# Altium integrated library Renesas Microcontroller H8.IntLib: 489 symbols (part 20 of 25)
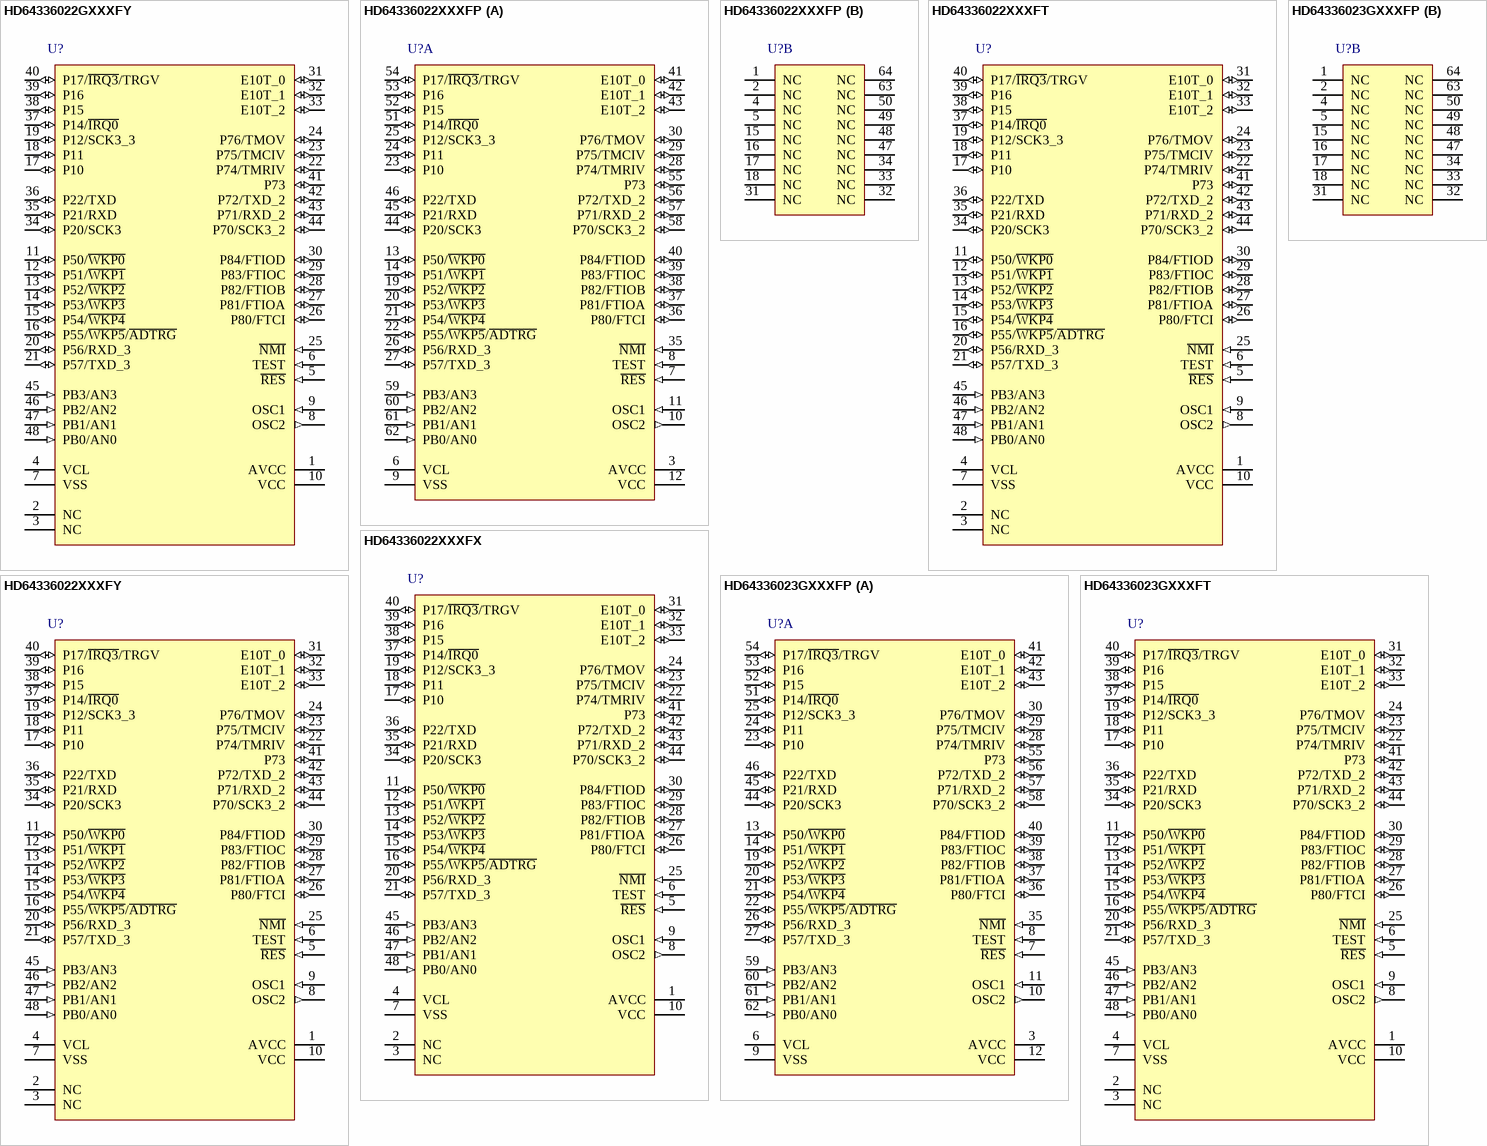
[diagram p107: symbols HD64336022GXXXFY to HD64336023GXXXFT]

## HD64336023GXXXFP
designator U?
H8 Family 32/16-bit CISC, H8/300H Tiny, 24K ROM, 1K RAM, 1 to 10MHz, 2.7 to 5.5V, 64-Pin QFP; Published: 28-Aug-2009; DatasheetVersion: Rev.4.00, Sep-2005; PackageVersion: Sep-2005; PackageReference: PLQP0064KC-A; Publisher: Altium Limited; PackageDescription: 64-Pin Plastic Low Profile QFP, 10 x 10 x 1.45 mm Body, 0.5 mm Pitch; Code_JEITA: P-LQFP64-10x10-0.50; Code_IPC: SQFP50P1200X1200-64; ComponentLink1Description: Manufacturer Link; ComponentLink1URL: http://sg.renesas.com/fmwk.jsp?cnt=h8_family_landing.jsp&fp=/products/mpumcu/h8_family/; ComponentLink2Description: Datasheet; ComponentLink2URL: http://documentation.renesas.com/eng/products/mpumcu/rej09b0025_h836024.pdf; ComponentLink3Description: Packaging Specification; ComponentLink3URL: http://sg.renesas.com/media/products/common_info/package/pdf/ic/code/plqp0064kc_a.pdf
footprint PLQP0064KC-A_N (Shrink QFP, 64-Leads, Body 10x10mm, Pitch 0.5mm, IPC Medium Density)
footprint PLQP0064KC-A_L (Shrink QFP, 64-Leads, Body 10x10mm, Pitch 0.5mm, IPC High Density)
footprint PLQP0064KC-A_M (Shrink QFP, 64-Leads, Body 10x10mm, Pitch 0.5mm, IPC Low Density)
part A pins: 3 AVCC (power), 6 VCL (power), 7 ~{RES} (in), 8 TEST (in), 9 VSS (power), 10 OSC2 (out), 11 OSC1 (in), 12 VCC (power), 13 P50/~{WKP0} (io), 14 P51/~{WKP1} (io), 19 P52/~{WKP2} (io), 20 P53/~{WKP3} (io), 21 P54/~{WKP4} (io), 22 P55/~{WKP5}/~{ADTRG} (io), 23 P10 (io), 24 P11 (io), 25 P12/SCK3_3 (io), 26 P56/RXD_3 (io), 27 P57/TXD_3 (io), 28 P74/TMRIV (io), 29 P75/TMCIV (io), 30 P76/TMOV (io), 35 ~{NMI} (in), 36 P80/FTCI (io), 37 P81/FTIOA (io), 38 P82/FTIOB (io), 39 P83/FTIOC (io), 40 P84/FTIOD (io), 41 E10T_0 (io), 42 E10T_1 (io), 43 E10T_2 (io), 44 P20/SCK3 (io), 45 P21/RXD (io), 46 P22/TXD (io), 51 P14/~{IRQ0} (io), 52 P15 (io), 53 P16 (io), 54 P17/~{IRQ3}/TRGV (io), 55 P73 (io), 56 P72/TXD_2 (io), 57 P71/RXD_2 (io), 58 P70/SCK3_2 (io), 59 PB3/AN3 (in), 60 PB2/AN2 (in), 61 PB1/AN1 (in), 62 PB0/AN0 (in)
part B pins: 1 NC, 2 NC, 4 NC, 5 NC, 15 NC, 16 NC, 17 NC, 18 NC, 31 NC, 32 NC, 33 NC, 34 NC, 47 NC, 48 NC, 49 NC, 50 NC, 63 NC, 64 NC

## HD64336023GXXXFT
designator U?
H8 Family 32/16-bit CISC, H8/300H Tiny, 24K ROM, 1K RAM, 1 to 10MHz, 2.7 to 5.5V, 48-Pin QFN; Published: 28-Aug-2009; DatasheetVersion: Rev.4.00, Sep-2005; PackageVersion: Sep-2005; PackageReference: PVQN0048KA-A; Publisher: Altium Limited; PackageDescription: 48-Pin Plastic Very Thin QFN, 7 x 7 X 0.9 mm Body, 0.5 mm Pitch; Code_JEITA: P-VQFN48-7x7-0.50; ComponentLink1Description: Manufacturer Link; ComponentLink1URL: http://sg.renesas.com/fmwk.jsp?cnt=h8_family_landing.jsp&fp=/products/mpumcu/h8_family/; ComponentLink2Description: Datasheet; ComponentLink2URL: http://documentation.renesas.com/eng/products/mpumcu/rej09b0025_h836024.pdf; ComponentLink3Description: Packaging Specification; ComponentLink3URL: http://sg.renesas.com/media/products/common_info/package/pdf/ic/code/pvqn0048ka_a.pdf
footprint PVQN0048KA-A_N (QFN, 48-Leads, Body 7x7mm, Pitch 0.5mm, IPC Medium Density)
footprint PVQN0048KA-A_L (QFN, 48-Leads, Body 7x7mm, Pitch 0.5mm, IPC High Density)
footprint PVQN0048KA-A_M (QFN, 48-Leads, Body 7x7mm, Pitch 0.5mm, IPC Low Density)
pins: 1 AVCC (power), 2 NC, 3 NC, 4 VCL (power), 5 ~{RES} (in), 6 TEST (in), 7 VSS (power), 8 OSC2 (out), 9 OSC1 (in), 10 VCC (power), 11 P50/~{WKP0} (io), 12 P51/~{WKP1} (io), 13 P52/~{WKP2} (io), 14 P53/~{WKP3} (io), 15 P54/~{WKP4} (io), 16 P55/~{WKP5}/~{ADTRG} (io), 17 P10 (io), 18 P11 (io), 19 P12/SCK3_3 (io), 20 P56/RXD_3 (io), 21 P57/TXD_3 (io), 22 P74/TMRIV (io), 23 P75/TMCIV (io), 24 P76/TMOV (io), 25 ~{NMI} (in), 26 P80/FTCI (io), 27 P81/FTIOA (io), 28 P82/FTIOB (io), 29 P83/FTIOC (io), 30 P84/FTIOD (io), 31 E10T_0 (io), 32 E10T_1 (io), 33 E10T_2 (io), 34 P20/SCK3 (io), 35 P21/RXD (io), 36 P22/TXD (io), 37 P14/~{IRQ0} (io), 38 P15 (io), 39 P16 (io), 40 P17/~{IRQ3}/TRGV (io), 41 P73 (io), 42 P72/TXD_2 (io), 43 P71/RXD_2 (io), 44 P70/SCK3_2 (io), 45 PB3/AN3 (in), 46 PB2/AN2 (in), 47 PB1/AN1 (in), 48 PB0/AN0 (in)

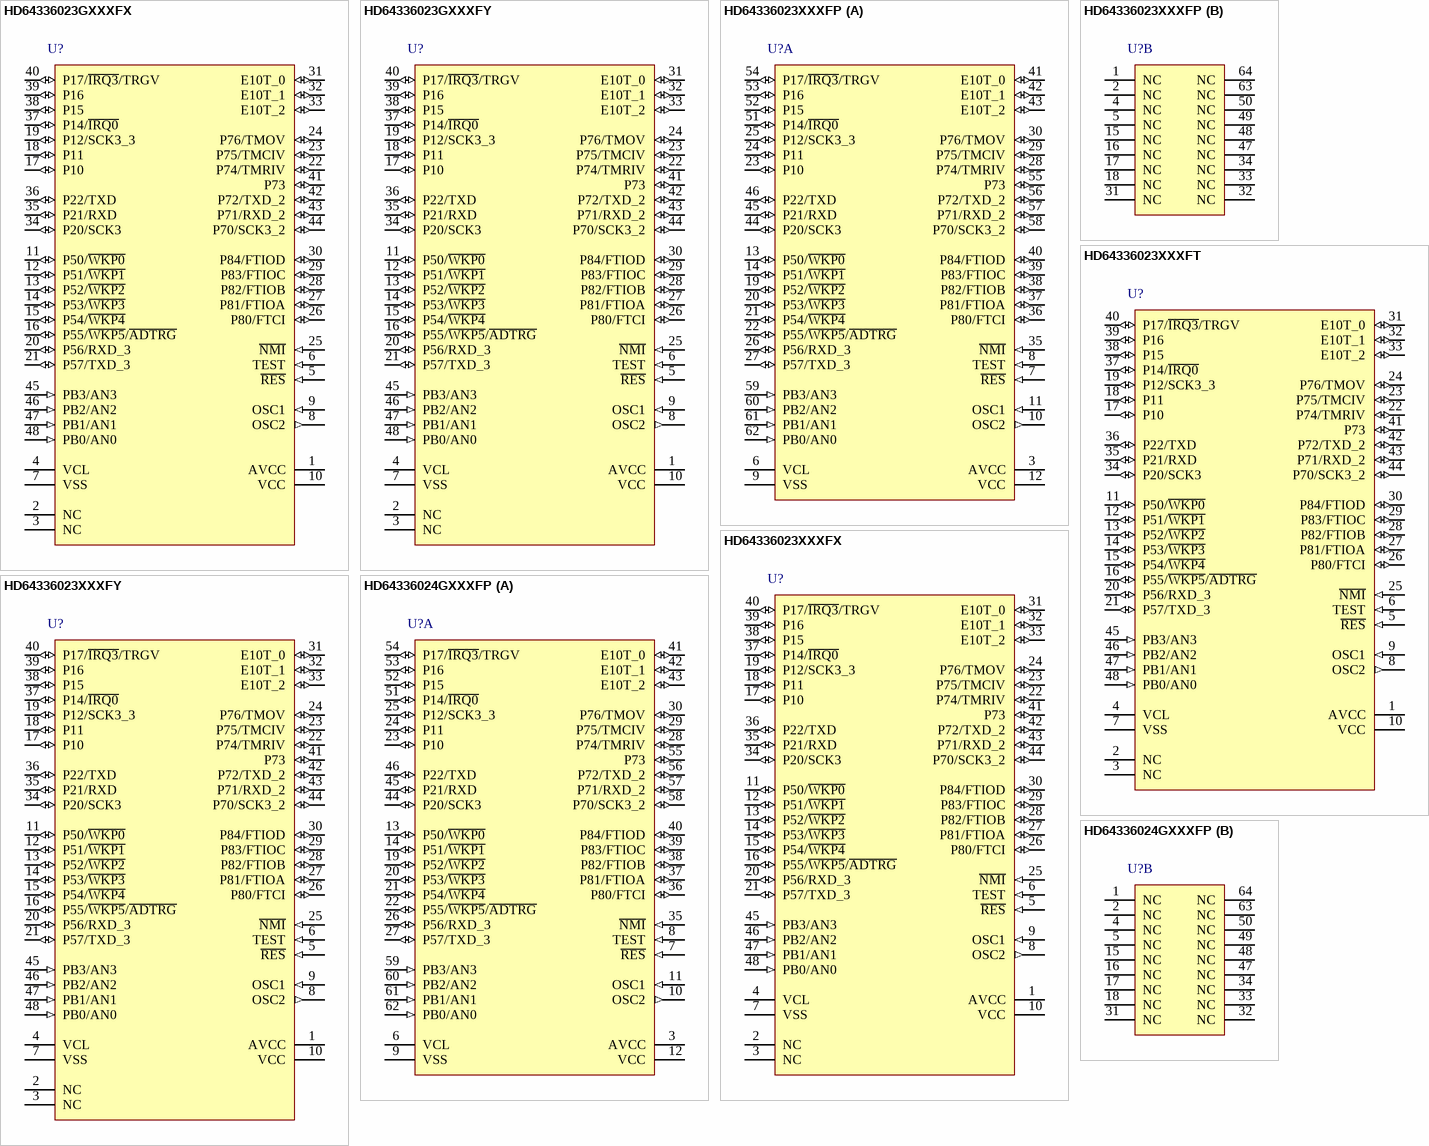
[diagram p69: symbols HD64336023GXXXFX to HD64336024GXXXFP]

## HD64336023GXXXFX
designator U?
H8 Family 32/16-bit CISC, H8/300H Tiny, 24K ROM, 1K RAM, 1 to 10MHz, 2.7 to 5.5V, 48-Pin QFP; Published: 28-Aug-2009; DatasheetVersion: Rev.4.00, Sep-2005; PackageVersion: Sep-2005; PackageReference: PLQP0048JA-A; Publisher: Altium Limited; PackageDescription: 48-Pin Plastic Low Profile QFP, 10 x 10 x 1.45 mm Body, 0.65 mm Pitch; Code_JEITA: P-LQFP48-10x10-0.65; ComponentLink1Description: Manufacturer Link; ComponentLink1URL: http://sg.renesas.com/fmwk.jsp?cnt=h8_family_landing.jsp&fp=/products/mpumcu/h8_family/; ComponentLink2Description: Datasheet; ComponentLink2URL: http://documentation.renesas.com/eng/products/mpumcu/rej09b0025_h836024.pdf; ComponentLink3Description: Packaging Specification; ComponentLink3URL: http://sg.renesas.com/media/products/common_info/package/pdf/ic/code/plqp0048ja_a.pdf
footprint PLQP0048JA-A_N (QFP, 48-Leads, Body 10x10mm, Pitch 0.65mm, IPC Medium Density)
footprint PLQP0048JA-A_L (QFP, 48-Leads, Body 10x10mm, Pitch 0.65mm, IPC High Density)
footprint PLQP0048JA-A_M (QFP, 48-Leads, Body 10x10mm, Pitch 0.65mm, IPC Low Density)
pins: 1 AVCC (power), 2 NC, 3 NC, 4 VCL (power), 5 ~{RES} (in), 6 TEST (in), 7 VSS (power), 8 OSC2 (out), 9 OSC1 (in), 10 VCC (power), 11 P50/~{WKP0} (io), 12 P51/~{WKP1} (io), 13 P52/~{WKP2} (io), 14 P53/~{WKP3} (io), 15 P54/~{WKP4} (io), 16 P55/~{WKP5}/~{ADTRG} (io), 17 P10 (io), 18 P11 (io), 19 P12/SCK3_3 (io), 20 P56/RXD_3 (io), 21 P57/TXD_3 (io), 22 P74/TMRIV (io), 23 P75/TMCIV (io), 24 P76/TMOV (io), 25 ~{NMI} (in), 26 P80/FTCI (io), 27 P81/FTIOA (io), 28 P82/FTIOB (io), 29 P83/FTIOC (io), 30 P84/FTIOD (io), 31 E10T_0 (io), 32 E10T_1 (io), 33 E10T_2 (io), 34 P20/SCK3 (io), 35 P21/RXD (io), 36 P22/TXD (io), 37 P14/~{IRQ0} (io), 38 P15 (io), 39 P16 (io), 40 P17/~{IRQ3}/TRGV (io), 41 P73 (io), 42 P72/TXD_2 (io), 43 P71/RXD_2 (io), 44 P70/SCK3_2 (io), 45 PB3/AN3 (in), 46 PB2/AN2 (in), 47 PB1/AN1 (in), 48 PB0/AN0 (in)

## HD64336023GXXXFY
designator U?
H8 Family 32/16-bit CISC, H8/300H Tiny, 24K ROM, 1K RAM, 1 to 10MHz, 2.7 to 5.5V, 48-Pin QFP; Published: 28-Aug-2009; DatasheetVersion: Rev.4.00, Sep-2005; PackageVersion: Sep-2005; PackageReference: PLQP0048KC-A; Publisher: Altium Limited; PackageDescription: 48-Pin Plastic Low Profile QFP, 7 x 7 x 1.4 mm Body, 0.5 mm Pitch; Code_JEITA: P-LQFP48-7x7-0.50; Code_IPC: SQFP50P900X900-48; ComponentLink1Description: Manufacturer Link; ComponentLink1URL: http://sg.renesas.com/fmwk.jsp?cnt=h8_family_landing.jsp&fp=/products/mpumcu/h8_family/; ComponentLink2Description: Datasheet; ComponentLink2URL: http://documentation.renesas.com/eng/products/mpumcu/rej09b0025_h836024.pdf; ComponentLink3Description: Packaging Specification; ComponentLink3URL: http://sg.renesas.com/media/products/common_info/package/pdf/ic/code/plqp0048kc_a.pdf
footprint PLQP0048KC-A_N (Shrink QFP, 48-Leads, Body 7x7mm, Pitch 0.5mm, IPC Medium Density)
footprint PLQP0048KC-A_L (Shrink QFP, 48-Leads, Body 7x7mm, Pitch 0.5mm, IPC High Density)
footprint PLQP0048KC-A_M (Shrink QFP, 48-Leads, Body 7x7mm, Pitch 0.5mm, IPC Low Density)
pins: 1 AVCC (power), 2 NC, 3 NC, 4 VCL (power), 5 ~{RES} (in), 6 TEST (in), 7 VSS (power), 8 OSC2 (out), 9 OSC1 (in), 10 VCC (power), 11 P50/~{WKP0} (io), 12 P51/~{WKP1} (io), 13 P52/~{WKP2} (io), 14 P53/~{WKP3} (io), 15 P54/~{WKP4} (io), 16 P55/~{WKP5}/~{ADTRG} (io), 17 P10 (io), 18 P11 (io), 19 P12/SCK3_3 (io), 20 P56/RXD_3 (io), 21 P57/TXD_3 (io), 22 P74/TMRIV (io), 23 P75/TMCIV (io), 24 P76/TMOV (io), 25 ~{NMI} (in), 26 P80/FTCI (io), 27 P81/FTIOA (io), 28 P82/FTIOB (io), 29 P83/FTIOC (io), 30 P84/FTIOD (io), 31 E10T_0 (io), 32 E10T_1 (io), 33 E10T_2 (io), 34 P20/SCK3 (io), 35 P21/RXD (io), 36 P22/TXD (io), 37 P14/~{IRQ0} (io), 38 P15 (io), 39 P16 (io), 40 P17/~{IRQ3}/TRGV (io), 41 P73 (io), 42 P72/TXD_2 (io), 43 P71/RXD_2 (io), 44 P70/SCK3_2 (io), 45 PB3/AN3 (in), 46 PB2/AN2 (in), 47 PB1/AN1 (in), 48 PB0/AN0 (in)

## HD64336023XXXFP
designator U?
H8 Family 32/16-bit CISC, H8/300H Tiny, 24K ROM, 1K RAM, 1 to 10MHz, 2.7 to 5.5V, 64-Pin QFP; Published: 28-Aug-2009; DatasheetVersion: Rev.4.00, Sep-2005; PackageVersion: Sep-2005; PackageReference: PLQP0064KC-A; Publisher: Altium Limited; PackageDescription: 64-Pin Plastic Low Profile QFP, 10 x 10 x 1.45 mm Body, 0.5 mm Pitch; Code_JEITA: P-LQFP64-10x10-0.50; Code_IPC: SQFP50P1200X1200-64; ComponentLink1Description: Manufacturer Link; ComponentLink1URL: http://sg.renesas.com/fmwk.jsp?cnt=h8_family_landing.jsp&fp=/products/mpumcu/h8_family/; ComponentLink2Description: Datasheet; ComponentLink2URL: http://documentation.renesas.com/eng/products/mpumcu/rej09b0025_h836024.pdf; ComponentLink3Description: Packaging Specification; ComponentLink3URL: http://sg.renesas.com/media/products/common_info/package/pdf/ic/code/plqp0064kc_a.pdf
footprint PLQP0064KC-A_N (Shrink QFP, 64-Leads, Body 10x10mm, Pitch 0.5mm, IPC Medium Density)
footprint PLQP0064KC-A_L (Shrink QFP, 64-Leads, Body 10x10mm, Pitch 0.5mm, IPC High Density)
footprint PLQP0064KC-A_M (Shrink QFP, 64-Leads, Body 10x10mm, Pitch 0.5mm, IPC Low Density)
part A pins: 3 AVCC (power), 6 VCL (power), 7 ~{RES} (in), 8 TEST (in), 9 VSS (power), 10 OSC2 (out), 11 OSC1 (in), 12 VCC (power), 13 P50/~{WKP0} (io), 14 P51/~{WKP1} (io), 19 P52/~{WKP2} (io), 20 P53/~{WKP3} (io), 21 P54/~{WKP4} (io), 22 P55/~{WKP5}/~{ADTRG} (io), 23 P10 (io), 24 P11 (io), 25 P12/SCK3_3 (io), 26 P56/RXD_3 (io), 27 P57/TXD_3 (io), 28 P74/TMRIV (io), 29 P75/TMCIV (io), 30 P76/TMOV (io), 35 ~{NMI} (in), 36 P80/FTCI (io), 37 P81/FTIOA (io), 38 P82/FTIOB (io), 39 P83/FTIOC (io), 40 P84/FTIOD (io), 41 E10T_0 (io), 42 E10T_1 (io), 43 E10T_2 (io), 44 P20/SCK3 (io), 45 P21/RXD (io), 46 P22/TXD (io), 51 P14/~{IRQ0} (io), 52 P15 (io), 53 P16 (io), 54 P17/~{IRQ3}/TRGV (io), 55 P73 (io), 56 P72/TXD_2 (io), 57 P71/RXD_2 (io), 58 P70/SCK3_2 (io), 59 PB3/AN3 (in), 60 PB2/AN2 (in), 61 PB1/AN1 (in), 62 PB0/AN0 (in)
part B pins: 1 NC, 2 NC, 4 NC, 5 NC, 15 NC, 16 NC, 17 NC, 18 NC, 31 NC, 32 NC, 33 NC, 34 NC, 47 NC, 48 NC, 49 NC, 50 NC, 63 NC, 64 NC

## HD64336023XXXFT
designator U?
H8 Family 32/16-bit CISC, H8/300H Tiny, 24K ROM, 1K RAM, 1 to 10MHz, 2.7 to 5.5V, 48-Pin QFN; Published: 28-Aug-2009; DatasheetVersion: Rev.4.00, Sep-2005; PackageVersion: Sep-2005; PackageReference: PVQN0048KA-A; Publisher: Altium Limited; PackageDescription: 48-Pin Plastic Very Thin QFN, 7 x 7 X 0.9 mm Body, 0.5 mm Pitch; Code_JEITA: P-VQFN48-7x7-0.50; ComponentLink1Description: Manufacturer Link; ComponentLink1URL: http://sg.renesas.com/fmwk.jsp?cnt=h8_family_landing.jsp&fp=/products/mpumcu/h8_family/; ComponentLink2Description: Datasheet; ComponentLink2URL: http://documentation.renesas.com/eng/products/mpumcu/rej09b0025_h836024.pdf; ComponentLink3Description: Packaging Specification; ComponentLink3URL: http://sg.renesas.com/media/products/common_info/package/pdf/ic/code/pvqn0048ka_a.pdf
footprint PVQN0048KA-A_N (QFN, 48-Leads, Body 7x7mm, Pitch 0.5mm, IPC Medium Density)
footprint PVQN0048KA-A_L (QFN, 48-Leads, Body 7x7mm, Pitch 0.5mm, IPC High Density)
footprint PVQN0048KA-A_M (QFN, 48-Leads, Body 7x7mm, Pitch 0.5mm, IPC Low Density)
pins: 1 AVCC (power), 2 NC, 3 NC, 4 VCL (power), 5 ~{RES} (in), 6 TEST (in), 7 VSS (power), 8 OSC2 (out), 9 OSC1 (in), 10 VCC (power), 11 P50/~{WKP0} (io), 12 P51/~{WKP1} (io), 13 P52/~{WKP2} (io), 14 P53/~{WKP3} (io), 15 P54/~{WKP4} (io), 16 P55/~{WKP5}/~{ADTRG} (io), 17 P10 (io), 18 P11 (io), 19 P12/SCK3_3 (io), 20 P56/RXD_3 (io), 21 P57/TXD_3 (io), 22 P74/TMRIV (io), 23 P75/TMCIV (io), 24 P76/TMOV (io), 25 ~{NMI} (in), 26 P80/FTCI (io), 27 P81/FTIOA (io), 28 P82/FTIOB (io), 29 P83/FTIOC (io), 30 P84/FTIOD (io), 31 E10T_0 (io), 32 E10T_1 (io), 33 E10T_2 (io), 34 P20/SCK3 (io), 35 P21/RXD (io), 36 P22/TXD (io), 37 P14/~{IRQ0} (io), 38 P15 (io), 39 P16 (io), 40 P17/~{IRQ3}/TRGV (io), 41 P73 (io), 42 P72/TXD_2 (io), 43 P71/RXD_2 (io), 44 P70/SCK3_2 (io), 45 PB3/AN3 (in), 46 PB2/AN2 (in), 47 PB1/AN1 (in), 48 PB0/AN0 (in)

## HD64336023XXXFX
designator U?
H8 Family 32/16-bit CISC, H8/300H Tiny, 24K ROM, 1K RAM, 1 to 10MHz, 2.7 to 5.5V, 48-Pin QFP; Published: 28-Aug-2009; DatasheetVersion: Rev.4.00, Sep-2005; PackageVersion: Sep-2005; PackageReference: PLQP0048JA-A; Publisher: Altium Limited; PackageDescription: 48-Pin Plastic Low Profile QFP, 10 x 10 x 1.45 mm Body, 0.65 mm Pitch; Code_JEITA: P-LQFP48-10x10-0.65; ComponentLink1Description: Manufacturer Link; ComponentLink1URL: http://sg.renesas.com/fmwk.jsp?cnt=h8_family_landing.jsp&fp=/products/mpumcu/h8_family/; ComponentLink2Description: Datasheet; ComponentLink2URL: http://documentation.renesas.com/eng/products/mpumcu/rej09b0025_h836024.pdf; ComponentLink3Description: Packaging Specification; ComponentLink3URL: http://sg.renesas.com/media/products/common_info/package/pdf/ic/code/plqp0048ja_a.pdf
footprint PLQP0048JA-A_N (QFP, 48-Leads, Body 10x10mm, Pitch 0.65mm, IPC Medium Density)
footprint PLQP0048JA-A_L (QFP, 48-Leads, Body 10x10mm, Pitch 0.65mm, IPC High Density)
footprint PLQP0048JA-A_M (QFP, 48-Leads, Body 10x10mm, Pitch 0.65mm, IPC Low Density)
pins: 1 AVCC (power), 2 NC, 3 NC, 4 VCL (power), 5 ~{RES} (in), 6 TEST (in), 7 VSS (power), 8 OSC2 (out), 9 OSC1 (in), 10 VCC (power), 11 P50/~{WKP0} (io), 12 P51/~{WKP1} (io), 13 P52/~{WKP2} (io), 14 P53/~{WKP3} (io), 15 P54/~{WKP4} (io), 16 P55/~{WKP5}/~{ADTRG} (io), 17 P10 (io), 18 P11 (io), 19 P12/SCK3_3 (io), 20 P56/RXD_3 (io), 21 P57/TXD_3 (io), 22 P74/TMRIV (io), 23 P75/TMCIV (io), 24 P76/TMOV (io), 25 ~{NMI} (in), 26 P80/FTCI (io), 27 P81/FTIOA (io), 28 P82/FTIOB (io), 29 P83/FTIOC (io), 30 P84/FTIOD (io), 31 E10T_0 (io), 32 E10T_1 (io), 33 E10T_2 (io), 34 P20/SCK3 (io), 35 P21/RXD (io), 36 P22/TXD (io), 37 P14/~{IRQ0} (io), 38 P15 (io), 39 P16 (io), 40 P17/~{IRQ3}/TRGV (io), 41 P73 (io), 42 P72/TXD_2 (io), 43 P71/RXD_2 (io), 44 P70/SCK3_2 (io), 45 PB3/AN3 (in), 46 PB2/AN2 (in), 47 PB1/AN1 (in), 48 PB0/AN0 (in)

## HD64336023XXXFY
designator U?
H8 Family 32/16-bit CISC, H8/300H Tiny, 24K ROM, 1K RAM, 1 to 10MHz, 2.7 to 5.5V, 48-Pin QFP; Published: 28-Aug-2009; DatasheetVersion: Rev.4.00, Sep-2005; PackageVersion: Sep-2005; PackageReference: PLQP0048KC-A; Publisher: Altium Limited; PackageDescription: 48-Pin Plastic Low Profile QFP, 7 x 7 x 1.4 mm Body, 0.5 mm Pitch; Code_JEITA: P-LQFP48-7x7-0.50; Code_IPC: SQFP50P900X900-48; ComponentLink1Description: Manufacturer Link; ComponentLink1URL: http://sg.renesas.com/fmwk.jsp?cnt=h8_family_landing.jsp&fp=/products/mpumcu/h8_family/; ComponentLink2Description: Datasheet; ComponentLink2URL: http://documentation.renesas.com/eng/products/mpumcu/rej09b0025_h836024.pdf; ComponentLink3Description: Packaging Specification; ComponentLink3URL: http://sg.renesas.com/media/products/common_info/package/pdf/ic/code/plqp0048kc_a.pdf
footprint PLQP0048KC-A_N (Shrink QFP, 48-Leads, Body 7x7mm, Pitch 0.5mm, IPC Medium Density)
footprint PLQP0048KC-A_L (Shrink QFP, 48-Leads, Body 7x7mm, Pitch 0.5mm, IPC High Density)
footprint PLQP0048KC-A_M (Shrink QFP, 48-Leads, Body 7x7mm, Pitch 0.5mm, IPC Low Density)
pins: 1 AVCC (power), 2 NC, 3 NC, 4 VCL (power), 5 ~{RES} (in), 6 TEST (in), 7 VSS (power), 8 OSC2 (out), 9 OSC1 (in), 10 VCC (power), 11 P50/~{WKP0} (io), 12 P51/~{WKP1} (io), 13 P52/~{WKP2} (io), 14 P53/~{WKP3} (io), 15 P54/~{WKP4} (io), 16 P55/~{WKP5}/~{ADTRG} (io), 17 P10 (io), 18 P11 (io), 19 P12/SCK3_3 (io), 20 P56/RXD_3 (io), 21 P57/TXD_3 (io), 22 P74/TMRIV (io), 23 P75/TMCIV (io), 24 P76/TMOV (io), 25 ~{NMI} (in), 26 P80/FTCI (io), 27 P81/FTIOA (io), 28 P82/FTIOB (io), 29 P83/FTIOC (io), 30 P84/FTIOD (io), 31 E10T_0 (io), 32 E10T_1 (io), 33 E10T_2 (io), 34 P20/SCK3 (io), 35 P21/RXD (io), 36 P22/TXD (io), 37 P14/~{IRQ0} (io), 38 P15 (io), 39 P16 (io), 40 P17/~{IRQ3}/TRGV (io), 41 P73 (io), 42 P72/TXD_2 (io), 43 P71/RXD_2 (io), 44 P70/SCK3_2 (io), 45 PB3/AN3 (in), 46 PB2/AN2 (in), 47 PB1/AN1 (in), 48 PB0/AN0 (in)

## HD64336024GXXXFP
designator U?
H8 Family 32/16-bit CISC, H8/300H Tiny, 32K ROM, 1K RAM, 1 to 10MHz, 2.7 to 5.5V, 64-Pin QFP; Published: 28-Aug-2009; DatasheetVersion: Rev.4.00, Sep-2005; PackageVersion: Sep-2005; PackageReference: PLQP0064KC-A; Publisher: Altium Limited; PackageDescription: 64-Pin Plastic Low Profile QFP, 10 x 10 x 1.45 mm Body, 0.5 mm Pitch; Code_JEITA: P-LQFP64-10x10-0.50; Code_IPC: SQFP50P1200X1200-64; ComponentLink1Description: Manufacturer Link; ComponentLink1URL: http://sg.renesas.com/fmwk.jsp?cnt=h8_family_landing.jsp&fp=/products/mpumcu/h8_family/; ComponentLink2Description: Datasheet; ComponentLink2URL: http://documentation.renesas.com/eng/products/mpumcu/rej09b0025_h836024.pdf; ComponentLink3Description: Packaging Specification; ComponentLink3URL: http://sg.renesas.com/media/products/common_info/package/pdf/ic/code/plqp0064kc_a.pdf
footprint PLQP0064KC-A_N (Shrink QFP, 64-Leads, Body 10x10mm, Pitch 0.5mm, IPC Medium Density)
footprint PLQP0064KC-A_L (Shrink QFP, 64-Leads, Body 10x10mm, Pitch 0.5mm, IPC High Density)
footprint PLQP0064KC-A_M (Shrink QFP, 64-Leads, Body 10x10mm, Pitch 0.5mm, IPC Low Density)
part A pins: 3 AVCC (power), 6 VCL (power), 7 ~{RES} (in), 8 TEST (in), 9 VSS (power), 10 OSC2 (out), 11 OSC1 (in), 12 VCC (power), 13 P50/~{WKP0} (io), 14 P51/~{WKP1} (io), 19 P52/~{WKP2} (io), 20 P53/~{WKP3} (io), 21 P54/~{WKP4} (io), 22 P55/~{WKP5}/~{ADTRG} (io), 23 P10 (io), 24 P11 (io), 25 P12/SCK3_3 (io), 26 P56/RXD_3 (io), 27 P57/TXD_3 (io), 28 P74/TMRIV (io), 29 P75/TMCIV (io), 30 P76/TMOV (io), 35 ~{NMI} (in), 36 P80/FTCI (io), 37 P81/FTIOA (io), 38 P82/FTIOB (io), 39 P83/FTIOC (io), 40 P84/FTIOD (io), 41 E10T_0 (io), 42 E10T_1 (io), 43 E10T_2 (io), 44 P20/SCK3 (io), 45 P21/RXD (io), 46 P22/TXD (io), 51 P14/~{IRQ0} (io), 52 P15 (io), 53 P16 (io), 54 P17/~{IRQ3}/TRGV (io), 55 P73 (io), 56 P72/TXD_2 (io), 57 P71/RXD_2 (io), 58 P70/SCK3_2 (io), 59 PB3/AN3 (in), 60 PB2/AN2 (in), 61 PB1/AN1 (in), 62 PB0/AN0 (in)
part B pins: 1 NC, 2 NC, 4 NC, 5 NC, 15 NC, 16 NC, 17 NC, 18 NC, 31 NC, 32 NC, 33 NC, 34 NC, 47 NC, 48 NC, 49 NC, 50 NC, 63 NC, 64 NC

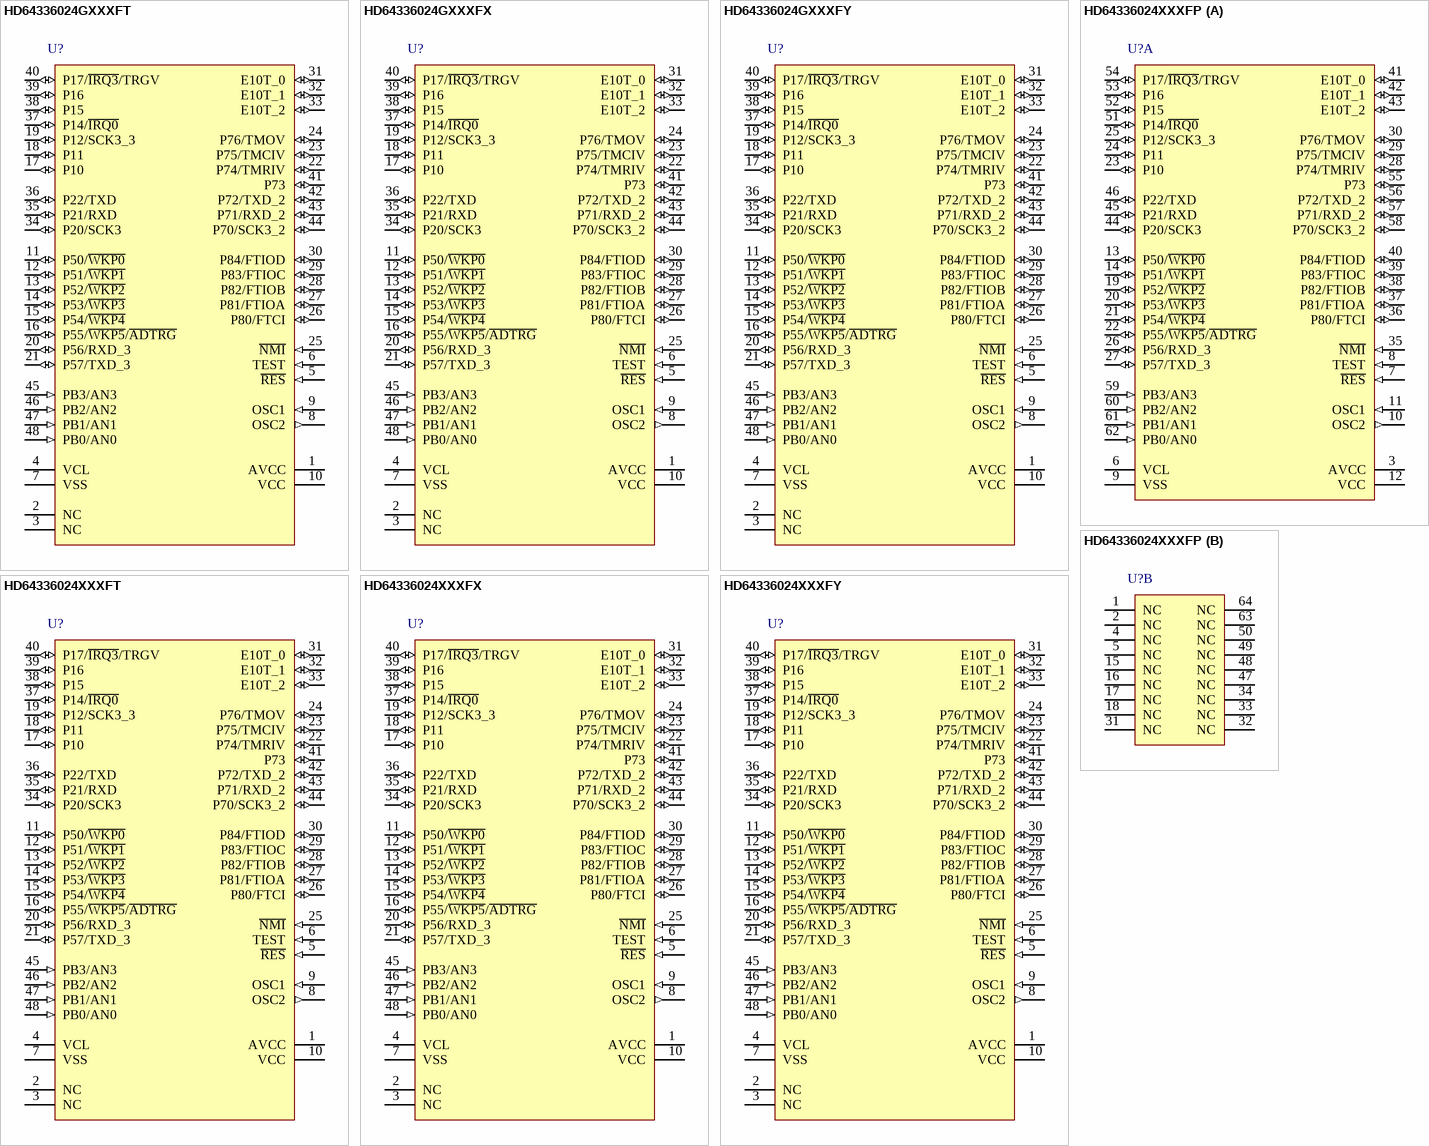
[diagram p70: symbols HD64336024GXXXFT to HD64336024XXXFY]

## HD64336024GXXXFT
designator U?
H8 Family 32/16-bit CISC, H8/300H Tiny, 32K ROM, 1K RAM, 1 to 10MHz, 2.7 to 5.5V, 48-Pin QFN; Published: 28-Aug-2009; DatasheetVersion: Rev.4.00, Sep-2005; PackageVersion: Sep-2005; PackageReference: PVQN0048KA-A; Publisher: Altium Limited; PackageDescription: 48-Pin Plastic Very Thin QFN, 7 x 7 X 0.9 mm Body, 0.5 mm Pitch; Code_JEITA: P-VQFN48-7x7-0.50; ComponentLink1Description: Manufacturer Link; ComponentLink1URL: http://sg.renesas.com/fmwk.jsp?cnt=h8_family_landing.jsp&fp=/products/mpumcu/h8_family/; ComponentLink2Description: Datasheet; ComponentLink2URL: http://documentation.renesas.com/eng/products/mpumcu/rej09b0025_h836024.pdf; ComponentLink3Description: Packaging Specification; ComponentLink3URL: http://sg.renesas.com/media/products/common_info/package/pdf/ic/code/pvqn0048ka_a.pdf
footprint PVQN0048KA-A_N (QFN, 48-Leads, Body 7x7mm, Pitch 0.5mm, IPC Medium Density)
footprint PVQN0048KA-A_L (QFN, 48-Leads, Body 7x7mm, Pitch 0.5mm, IPC High Density)
footprint PVQN0048KA-A_M (QFN, 48-Leads, Body 7x7mm, Pitch 0.5mm, IPC Low Density)
pins: 1 AVCC (power), 2 NC, 3 NC, 4 VCL (power), 5 ~{RES} (in), 6 TEST (in), 7 VSS (power), 8 OSC2 (out), 9 OSC1 (in), 10 VCC (power), 11 P50/~{WKP0} (io), 12 P51/~{WKP1} (io), 13 P52/~{WKP2} (io), 14 P53/~{WKP3} (io), 15 P54/~{WKP4} (io), 16 P55/~{WKP5}/~{ADTRG} (io), 17 P10 (io), 18 P11 (io), 19 P12/SCK3_3 (io), 20 P56/RXD_3 (io), 21 P57/TXD_3 (io), 22 P74/TMRIV (io), 23 P75/TMCIV (io), 24 P76/TMOV (io), 25 ~{NMI} (in), 26 P80/FTCI (io), 27 P81/FTIOA (io), 28 P82/FTIOB (io), 29 P83/FTIOC (io), 30 P84/FTIOD (io), 31 E10T_0 (io), 32 E10T_1 (io), 33 E10T_2 (io), 34 P20/SCK3 (io), 35 P21/RXD (io), 36 P22/TXD (io), 37 P14/~{IRQ0} (io), 38 P15 (io), 39 P16 (io), 40 P17/~{IRQ3}/TRGV (io), 41 P73 (io), 42 P72/TXD_2 (io), 43 P71/RXD_2 (io), 44 P70/SCK3_2 (io), 45 PB3/AN3 (in), 46 PB2/AN2 (in), 47 PB1/AN1 (in), 48 PB0/AN0 (in)

## HD64336024GXXXFX
designator U?
H8 Family 32/16-bit CISC, H8/300H Tiny, 32K ROM, 1K RAM, 1 to 10MHz, 2.7 to 5.5V, 48-Pin QFP; Published: 28-Aug-2009; DatasheetVersion: Rev.4.00, Sep-2005; PackageVersion: Sep-2005; PackageReference: PLQP0048JA-A; Publisher: Altium Limited; PackageDescription: 48-Pin Plastic Low Profile QFP, 10 x 10 x 1.45 mm Body, 0.65 mm Pitch; Code_JEITA: P-LQFP48-10x10-0.65; ComponentLink1Description: Manufacturer Link; ComponentLink1URL: http://sg.renesas.com/fmwk.jsp?cnt=h8_family_landing.jsp&fp=/products/mpumcu/h8_family/; ComponentLink2Description: Datasheet; ComponentLink2URL: http://documentation.renesas.com/eng/products/mpumcu/rej09b0025_h836024.pdf; ComponentLink3Description: Packaging Specification; ComponentLink3URL: http://sg.renesas.com/media/products/common_info/package/pdf/ic/code/plqp0048ja_a.pdf
footprint PLQP0048JA-A_N (QFP, 48-Leads, Body 10x10mm, Pitch 0.65mm, IPC Medium Density)
footprint PLQP0048JA-A_L (QFP, 48-Leads, Body 10x10mm, Pitch 0.65mm, IPC High Density)
footprint PLQP0048JA-A_M (QFP, 48-Leads, Body 10x10mm, Pitch 0.65mm, IPC Low Density)
pins: 1 AVCC (power), 2 NC, 3 NC, 4 VCL (power), 5 ~{RES} (in), 6 TEST (in), 7 VSS (power), 8 OSC2 (out), 9 OSC1 (in), 10 VCC (power), 11 P50/~{WKP0} (io), 12 P51/~{WKP1} (io), 13 P52/~{WKP2} (io), 14 P53/~{WKP3} (io), 15 P54/~{WKP4} (io), 16 P55/~{WKP5}/~{ADTRG} (io), 17 P10 (io), 18 P11 (io), 19 P12/SCK3_3 (io), 20 P56/RXD_3 (io), 21 P57/TXD_3 (io), 22 P74/TMRIV (io), 23 P75/TMCIV (io), 24 P76/TMOV (io), 25 ~{NMI} (in), 26 P80/FTCI (io), 27 P81/FTIOA (io), 28 P82/FTIOB (io), 29 P83/FTIOC (io), 30 P84/FTIOD (io), 31 E10T_0 (io), 32 E10T_1 (io), 33 E10T_2 (io), 34 P20/SCK3 (io), 35 P21/RXD (io), 36 P22/TXD (io), 37 P14/~{IRQ0} (io), 38 P15 (io), 39 P16 (io), 40 P17/~{IRQ3}/TRGV (io), 41 P73 (io), 42 P72/TXD_2 (io), 43 P71/RXD_2 (io), 44 P70/SCK3_2 (io), 45 PB3/AN3 (in), 46 PB2/AN2 (in), 47 PB1/AN1 (in), 48 PB0/AN0 (in)

## HD64336024GXXXFY
designator U?
H8 Family 32/16-bit CISC, H8/300H Tiny, 32K ROM, 1K RAM, 1 to 10MHz, 2.7 to 5.5V, 48-Pin QFP; Published: 28-Aug-2009; DatasheetVersion: Rev.4.00, Sep-2005; PackageVersion: Sep-2005; PackageReference: PLQP0048KC-A; Publisher: Altium Limited; PackageDescription: 48-Pin Plastic Low Profile QFP, 7 x 7 x 1.4 mm Body, 0.5 mm Pitch; Code_JEITA: P-LQFP48-7x7-0.50; Code_IPC: SQFP50P900X900-48; ComponentLink1Description: Manufacturer Link; ComponentLink1URL: http://sg.renesas.com/fmwk.jsp?cnt=h8_family_landing.jsp&fp=/products/mpumcu/h8_family/; ComponentLink2Description: Datasheet; ComponentLink2URL: http://documentation.renesas.com/eng/products/mpumcu/rej09b0025_h836024.pdf; ComponentLink3Description: Packaging Specification; ComponentLink3URL: http://sg.renesas.com/media/products/common_info/package/pdf/ic/code/plqp0048kc_a.pdf
footprint PLQP0048KC-A_N (Shrink QFP, 48-Leads, Body 7x7mm, Pitch 0.5mm, IPC Medium Density)
footprint PLQP0048KC-A_L (Shrink QFP, 48-Leads, Body 7x7mm, Pitch 0.5mm, IPC High Density)
footprint PLQP0048KC-A_M (Shrink QFP, 48-Leads, Body 7x7mm, Pitch 0.5mm, IPC Low Density)
pins: 1 AVCC (power), 2 NC, 3 NC, 4 VCL (power), 5 ~{RES} (in), 6 TEST (in), 7 VSS (power), 8 OSC2 (out), 9 OSC1 (in), 10 VCC (power), 11 P50/~{WKP0} (io), 12 P51/~{WKP1} (io), 13 P52/~{WKP2} (io), 14 P53/~{WKP3} (io), 15 P54/~{WKP4} (io), 16 P55/~{WKP5}/~{ADTRG} (io), 17 P10 (io), 18 P11 (io), 19 P12/SCK3_3 (io), 20 P56/RXD_3 (io), 21 P57/TXD_3 (io), 22 P74/TMRIV (io), 23 P75/TMCIV (io), 24 P76/TMOV (io), 25 ~{NMI} (in), 26 P80/FTCI (io), 27 P81/FTIOA (io), 28 P82/FTIOB (io), 29 P83/FTIOC (io), 30 P84/FTIOD (io), 31 E10T_0 (io), 32 E10T_1 (io), 33 E10T_2 (io), 34 P20/SCK3 (io), 35 P21/RXD (io), 36 P22/TXD (io), 37 P14/~{IRQ0} (io), 38 P15 (io), 39 P16 (io), 40 P17/~{IRQ3}/TRGV (io), 41 P73 (io), 42 P72/TXD_2 (io), 43 P71/RXD_2 (io), 44 P70/SCK3_2 (io), 45 PB3/AN3 (in), 46 PB2/AN2 (in), 47 PB1/AN1 (in), 48 PB0/AN0 (in)

## HD64336024XXXFP
designator U?
H8 Family 32/16-bit CISC, H8/300H Tiny, 32K ROM, 1K RAM, 1 to 10MHz, 2.7 to 5.5V, 64-Pin QFP; Published: 28-Aug-2009; DatasheetVersion: Rev.4.00, Sep-2005; PackageVersion: Sep-2005; PackageReference: PLQP0064KC-A; Publisher: Altium Limited; PackageDescription: 64-Pin Plastic Low Profile QFP, 10 x 10 x 1.45 mm Body, 0.5 mm Pitch; Code_JEITA: P-LQFP64-10x10-0.50; Code_IPC: SQFP50P1200X1200-64; ComponentLink1Description: Manufacturer Link; ComponentLink1URL: http://sg.renesas.com/fmwk.jsp?cnt=h8_family_landing.jsp&fp=/products/mpumcu/h8_family/; ComponentLink2Description: Datasheet; ComponentLink2URL: http://documentation.renesas.com/eng/products/mpumcu/rej09b0025_h836024.pdf; ComponentLink3Description: Packaging Specification; ComponentLink3URL: http://sg.renesas.com/media/products/common_info/package/pdf/ic/code/plqp0064kc_a.pdf
footprint PLQP0064KC-A_N (Shrink QFP, 64-Leads, Body 10x10mm, Pitch 0.5mm, IPC Medium Density)
footprint PLQP0064KC-A_L (Shrink QFP, 64-Leads, Body 10x10mm, Pitch 0.5mm, IPC High Density)
footprint PLQP0064KC-A_M (Shrink QFP, 64-Leads, Body 10x10mm, Pitch 0.5mm, IPC Low Density)
part A pins: 3 AVCC (power), 6 VCL (power), 7 ~{RES} (in), 8 TEST (in), 9 VSS (power), 10 OSC2 (out), 11 OSC1 (in), 12 VCC (power), 13 P50/~{WKP0} (io), 14 P51/~{WKP1} (io), 19 P52/~{WKP2} (io), 20 P53/~{WKP3} (io), 21 P54/~{WKP4} (io), 22 P55/~{WKP5}/~{ADTRG} (io), 23 P10 (io), 24 P11 (io), 25 P12/SCK3_3 (io), 26 P56/RXD_3 (io), 27 P57/TXD_3 (io), 28 P74/TMRIV (io), 29 P75/TMCIV (io), 30 P76/TMOV (io), 35 ~{NMI} (in), 36 P80/FTCI (io), 37 P81/FTIOA (io), 38 P82/FTIOB (io), 39 P83/FTIOC (io), 40 P84/FTIOD (io), 41 E10T_0 (io), 42 E10T_1 (io), 43 E10T_2 (io), 44 P20/SCK3 (io), 45 P21/RXD (io), 46 P22/TXD (io), 51 P14/~{IRQ0} (io), 52 P15 (io), 53 P16 (io), 54 P17/~{IRQ3}/TRGV (io), 55 P73 (io), 56 P72/TXD_2 (io), 57 P71/RXD_2 (io), 58 P70/SCK3_2 (io), 59 PB3/AN3 (in), 60 PB2/AN2 (in), 61 PB1/AN1 (in), 62 PB0/AN0 (in)
part B pins: 1 NC, 2 NC, 4 NC, 5 NC, 15 NC, 16 NC, 17 NC, 18 NC, 31 NC, 32 NC, 33 NC, 34 NC, 47 NC, 48 NC, 49 NC, 50 NC, 63 NC, 64 NC

## HD64336024XXXFT
designator U?
H8 Family 32/16-bit CISC, H8/300H Tiny, 32K ROM, 1K RAM, 1 to 10MHz, 2.7 to 5.5V, 48-Pin QFN; Published: 28-Aug-2009; DatasheetVersion: Rev.4.00, Sep-2005; PackageVersion: Sep-2005; PackageReference: PVQN0048KA-A; Publisher: Altium Limited; PackageDescription: 48-Pin Plastic Very Thin QFN, 7 x 7 X 0.9 mm Body, 0.5 mm Pitch; Code_JEITA: P-VQFN48-7x7-0.50; ComponentLink1Description: Manufacturer Link; ComponentLink1URL: http://sg.renesas.com/fmwk.jsp?cnt=h8_family_landing.jsp&fp=/products/mpumcu/h8_family/; ComponentLink2Description: Datasheet; ComponentLink2URL: http://documentation.renesas.com/eng/products/mpumcu/rej09b0025_h836024.pdf; ComponentLink3Description: Packaging Specification; ComponentLink3URL: http://sg.renesas.com/media/products/common_info/package/pdf/ic/code/pvqn0048ka_a.pdf
footprint PVQN0048KA-A_N (QFN, 48-Leads, Body 7x7mm, Pitch 0.5mm, IPC Medium Density)
footprint PVQN0048KA-A_L (QFN, 48-Leads, Body 7x7mm, Pitch 0.5mm, IPC High Density)
footprint PVQN0048KA-A_M (QFN, 48-Leads, Body 7x7mm, Pitch 0.5mm, IPC Low Density)
pins: 1 AVCC (power), 2 NC, 3 NC, 4 VCL (power), 5 ~{RES} (in), 6 TEST (in), 7 VSS (power), 8 OSC2 (out), 9 OSC1 (in), 10 VCC (power), 11 P50/~{WKP0} (io), 12 P51/~{WKP1} (io), 13 P52/~{WKP2} (io), 14 P53/~{WKP3} (io), 15 P54/~{WKP4} (io), 16 P55/~{WKP5}/~{ADTRG} (io), 17 P10 (io), 18 P11 (io), 19 P12/SCK3_3 (io), 20 P56/RXD_3 (io), 21 P57/TXD_3 (io), 22 P74/TMRIV (io), 23 P75/TMCIV (io), 24 P76/TMOV (io), 25 ~{NMI} (in), 26 P80/FTCI (io), 27 P81/FTIOA (io), 28 P82/FTIOB (io), 29 P83/FTIOC (io), 30 P84/FTIOD (io), 31 E10T_0 (io), 32 E10T_1 (io), 33 E10T_2 (io), 34 P20/SCK3 (io), 35 P21/RXD (io), 36 P22/TXD (io), 37 P14/~{IRQ0} (io), 38 P15 (io), 39 P16 (io), 40 P17/~{IRQ3}/TRGV (io), 41 P73 (io), 42 P72/TXD_2 (io), 43 P71/RXD_2 (io), 44 P70/SCK3_2 (io), 45 PB3/AN3 (in), 46 PB2/AN2 (in), 47 PB1/AN1 (in), 48 PB0/AN0 (in)

## HD64336024XXXFX
designator U?
H8 Family 32/16-bit CISC, H8/300H Tiny, 32K ROM, 1K RAM, 1 to 10MHz, 2.7 to 5.5V, 48-Pin QFP; Published: 28-Aug-2009; DatasheetVersion: Rev.4.00, Sep-2005; PackageVersion: Sep-2005; PackageReference: PLQP0048JA-A; Publisher: Altium Limited; PackageDescription: 48-Pin Plastic Low Profile QFP, 10 x 10 x 1.45 mm Body, 0.65 mm Pitch; Code_JEITA: P-LQFP48-10x10-0.65; ComponentLink1Description: Manufacturer Link; ComponentLink1URL: http://sg.renesas.com/fmwk.jsp?cnt=h8_family_landing.jsp&fp=/products/mpumcu/h8_family/; ComponentLink2Description: Datasheet; ComponentLink2URL: http://documentation.renesas.com/eng/products/mpumcu/rej09b0025_h836024.pdf; ComponentLink3Description: Packaging Specification; ComponentLink3URL: http://sg.renesas.com/media/products/common_info/package/pdf/ic/code/plqp0048ja_a.pdf
footprint PLQP0048JA-A_N (QFP, 48-Leads, Body 10x10mm, Pitch 0.65mm, IPC Medium Density)
footprint PLQP0048JA-A_L (QFP, 48-Leads, Body 10x10mm, Pitch 0.65mm, IPC High Density)
footprint PLQP0048JA-A_M (QFP, 48-Leads, Body 10x10mm, Pitch 0.65mm, IPC Low Density)
pins: 1 AVCC (power), 2 NC, 3 NC, 4 VCL (power), 5 ~{RES} (in), 6 TEST (in), 7 VSS (power), 8 OSC2 (out), 9 OSC1 (in), 10 VCC (power), 11 P50/~{WKP0} (io), 12 P51/~{WKP1} (io), 13 P52/~{WKP2} (io), 14 P53/~{WKP3} (io), 15 P54/~{WKP4} (io), 16 P55/~{WKP5}/~{ADTRG} (io), 17 P10 (io), 18 P11 (io), 19 P12/SCK3_3 (io), 20 P56/RXD_3 (io), 21 P57/TXD_3 (io), 22 P74/TMRIV (io), 23 P75/TMCIV (io), 24 P76/TMOV (io), 25 ~{NMI} (in), 26 P80/FTCI (io), 27 P81/FTIOA (io), 28 P82/FTIOB (io), 29 P83/FTIOC (io), 30 P84/FTIOD (io), 31 E10T_0 (io), 32 E10T_1 (io), 33 E10T_2 (io), 34 P20/SCK3 (io), 35 P21/RXD (io), 36 P22/TXD (io), 37 P14/~{IRQ0} (io), 38 P15 (io), 39 P16 (io), 40 P17/~{IRQ3}/TRGV (io), 41 P73 (io), 42 P72/TXD_2 (io), 43 P71/RXD_2 (io), 44 P70/SCK3_2 (io), 45 PB3/AN3 (in), 46 PB2/AN2 (in), 47 PB1/AN1 (in), 48 PB0/AN0 (in)

## HD64336024XXXFY
designator U?
H8 Family 32/16-bit CISC, H8/300H Tiny, 32K ROM, 1K RAM, 1 to 10MHz, 2.7 to 5.5V, 48-Pin QFP; Published: 28-Aug-2009; DatasheetVersion: Rev.4.00, Sep-2005; PackageVersion: Sep-2005; PackageReference: PLQP0048KC-A; Publisher: Altium Limited; PackageDescription: 48-Pin Plastic Low Profile QFP, 7 x 7 x 1.4 mm Body, 0.5 mm Pitch; Code_JEITA: P-LQFP48-7x7-0.50; Code_IPC: SQFP50P900X900-48; ComponentLink1Description: Manufacturer Link; ComponentLink1URL: http://sg.renesas.com/fmwk.jsp?cnt=h8_family_landing.jsp&fp=/products/mpumcu/h8_family/; ComponentLink2Description: Datasheet; ComponentLink2URL: http://documentation.renesas.com/eng/products/mpumcu/rej09b0025_h836024.pdf; ComponentLink3Description: Packaging Specification; ComponentLink3URL: http://sg.renesas.com/media/products/common_info/package/pdf/ic/code/plqp0048kc_a.pdf
footprint PLQP0048KC-A_N (Shrink QFP, 48-Leads, Body 7x7mm, Pitch 0.5mm, IPC Medium Density)
footprint PLQP0048KC-A_L (Shrink QFP, 48-Leads, Body 7x7mm, Pitch 0.5mm, IPC High Density)
footprint PLQP0048KC-A_M (Shrink QFP, 48-Leads, Body 7x7mm, Pitch 0.5mm, IPC Low Density)
pins: 1 AVCC (power), 2 NC, 3 NC, 4 VCL (power), 5 ~{RES} (in), 6 TEST (in), 7 VSS (power), 8 OSC2 (out), 9 OSC1 (in), 10 VCC (power), 11 P50/~{WKP0} (io), 12 P51/~{WKP1} (io), 13 P52/~{WKP2} (io), 14 P53/~{WKP3} (io), 15 P54/~{WKP4} (io), 16 P55/~{WKP5}/~{ADTRG} (io), 17 P10 (io), 18 P11 (io), 19 P12/SCK3_3 (io), 20 P56/RXD_3 (io), 21 P57/TXD_3 (io), 22 P74/TMRIV (io), 23 P75/TMCIV (io), 24 P76/TMOV (io), 25 ~{NMI} (in), 26 P80/FTCI (io), 27 P81/FTIOA (io), 28 P82/FTIOB (io), 29 P83/FTIOC (io), 30 P84/FTIOD (io), 31 E10T_0 (io), 32 E10T_1 (io), 33 E10T_2 (io), 34 P20/SCK3 (io), 35 P21/RXD (io), 36 P22/TXD (io), 37 P14/~{IRQ0} (io), 38 P15 (io), 39 P16 (io), 40 P17/~{IRQ3}/TRGV (io), 41 P73 (io), 42 P72/TXD_2 (io), 43 P71/RXD_2 (io), 44 P70/SCK3_2 (io), 45 PB3/AN3 (in), 46 PB2/AN2 (in), 47 PB1/AN1 (in), 48 PB0/AN0 (in)

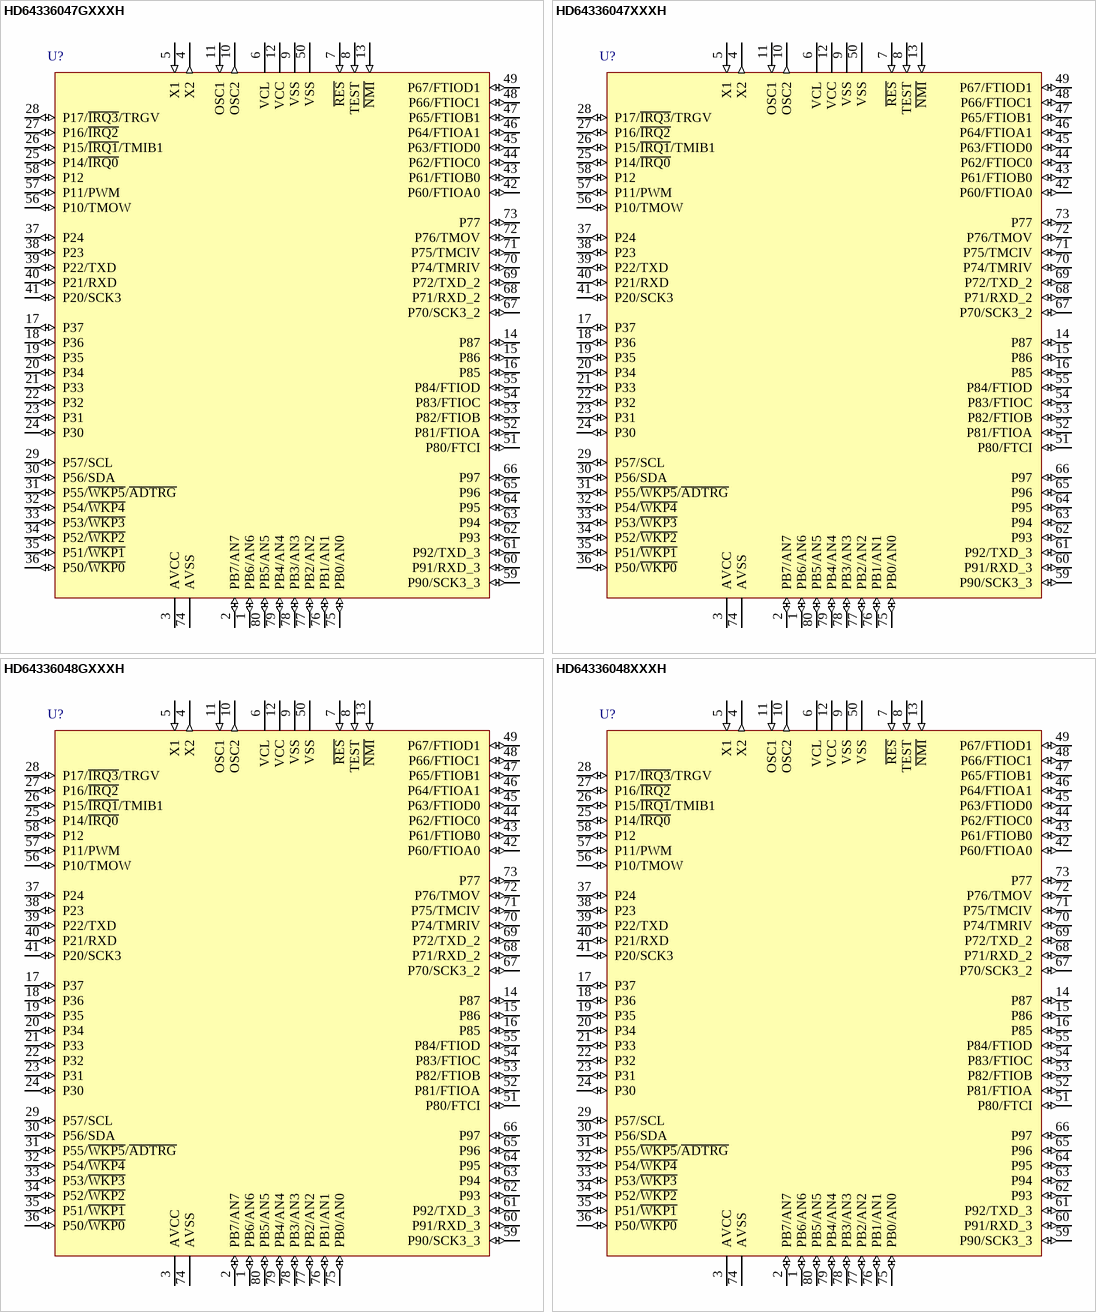
[diagram p71: symbols HD64336047GXXXH to HD64336048XXXH]

## HD64336047GXXXH
designator U?
H8 Family 32/16-bit CISC, H8/300H Tiny, 64K ROM, 3K RAM, 1 to 10MHz, 2.7 to 5.5V, 80-Pin QFP; Published: 28-Aug-2009; DatasheetVersion: Rev.3.00, Mar-2006; PackageVersion: Sep-2005; PackageReference: PRQP0080JB-A; Publisher: Altium Limited; PackageDescription: 80-Pin Plastic Quad Flat Pack, 14 x 14 x 2.7 mm Body, 0.65 mm Pitch; Code_JEITA: P-QFP80-14x14-0.65; Code_IPC: QFP65P1720X1720-80; ComponentLink1Description: Manufacturer Link; ComponentLink1URL: http://sg.renesas.com/fmwk.jsp?cnt=h8_family_landing.jsp&fp=/products/mpumcu/h8_family/; ComponentLink2Description: Datasheet; ComponentLink2URL: http://documentation.renesas.com/eng/products/mpumcu/rej09b0060_h836049.pdf; ComponentLink3Description: Packaging Specification; ComponentLink3URL: http://sg.renesas.com/media/products/common_info/package/pdf/ic/code/prqp0080jb_a.pdf
footprint PRQP0080JB-A_N (QFP, 80-Leads, Body 14x14mm, Pitch 0.65mm, IPC Medium Density)
footprint PRQP0080JB-A_L (QFP, 80-Leads, Body 14x14mm, Pitch 0.65mm, IPC High Density)
footprint PRQP0080JB-A_M (QFP, 80-Leads, Body 14x14mm, Pitch 0.65mm, IPC Low Density)
pins: 1 PB6/AN6 (io), 2 PB7/AN7 (io), 3 AVCC (power), 4 X2 (out), 5 X1 (in), 6 VCL (power), 7 ~{RES} (in), 8 TEST (in), 9 VSS (power), 10 OSC2 (out), 11 OSC1 (in), 12 VCC (power), 13 ~{NMI} (in), 14 P87 (io), 15 P86 (io), 16 P85 (io), 17 P37 (io), 18 P36 (io), 19 P35 (io), 20 P34 (io), 21 P33 (io), 22 P32 (io), 23 P31 (io), 24 P30 (io), 25 P14/~{IRQ0} (io), 26 P15/~{IRQ1}/TMIB1 (io), 27 P16/~{IRQ2} (io), 28 P17/~{IRQ3}/TRGV (io), 29 P57/SCL (io), 30 P56/SDA (io), 31 P55/~{WKP5}/~{ADTRG} (io), 32 P54/~{WKP4} (io), 33 P53/~{WKP3} (io), 34 P52/~{WKP2} (io), 35 P51/~{WKP1} (io), 36 P50/~{WKP0} (io), 37 P24 (io), 38 P23 (io), 39 P22/TXD (io), 40 P21/RXD (io), 41 P20/SCK3 (io), 42 P60/FTIOA0 (io), 43 P61/FTIOB0 (io), 44 P62/FTIOC0 (io), 45 P63/FTIOD0 (io), 46 P64/FTIOA1 (io), 47 P65/FTIOB1 (io), 48 P66/FTIOC1 (io), 49 P67/FTIOD1 (io), 50 VSS (power), 51 P80/FTCI (io), 52 P81/FTIOA (io), 53 P82/FTIOB (io), 54 P83/FTIOC (io), 55 P84/FTIOD (io), 56 P10/TMOW (io), 57 P11/PWM (io), 58 P12 (io), 59 P90/SCK3_3 (io), 60 P91/RXD_3 (io), 61 P92/TXD_3 (io), 62 P93 (io), 63 P94 (io), 64 P95 (io), 65 P96 (io), 66 P97 (io), 67 P70/SCK3_2 (io), 68 P71/RXD_2 (io), 69 P72/TXD_2 (io), 70 P74/TMRIV (io), 71 P75/TMCIV (io), 72 P76/TMOV (io), 73 P77 (io), 74 AVSS (power), 75 PB0/AN0 (io), 76 PB1/AN1 (io), 77 PB2/AN2 (io), 78 PB3/AN3 (io), 79 PB4/AN4 (io), 80 PB5/AN5 (io)

## HD64336047XXXH
designator U?
H8 Family 32/16-bit CISC, H8/300H Tiny, 64K ROM, 3K RAM, 1 to 10MHz, 2.7 to 5.5V, 80-Pin QFP; Published: 28-Aug-2009; DatasheetVersion: Rev.3.00, Mar-2006; PackageVersion: Sep-2005; PackageReference: PRQP0080JB-A; Publisher: Altium Limited; PackageDescription: 80-Pin Plastic Quad Flat Pack, 14 x 14 x 2.7 mm Body, 0.65 mm Pitch; Code_JEITA: P-QFP80-14x14-0.65; Code_IPC: QFP65P1720X1720-80; ComponentLink1Description: Manufacturer Link; ComponentLink1URL: http://sg.renesas.com/fmwk.jsp?cnt=h8_family_landing.jsp&fp=/products/mpumcu/h8_family/; ComponentLink2Description: Datasheet; ComponentLink2URL: http://documentation.renesas.com/eng/products/mpumcu/rej09b0060_h836049.pdf; ComponentLink3Description: Packaging Specification; ComponentLink3URL: http://sg.renesas.com/media/products/common_info/package/pdf/ic/code/prqp0080jb_a.pdf
footprint PRQP0080JB-A_N (QFP, 80-Leads, Body 14x14mm, Pitch 0.65mm, IPC Medium Density)
footprint PRQP0080JB-A_L (QFP, 80-Leads, Body 14x14mm, Pitch 0.65mm, IPC High Density)
footprint PRQP0080JB-A_M (QFP, 80-Leads, Body 14x14mm, Pitch 0.65mm, IPC Low Density)
pins: 1 PB6/AN6 (io), 2 PB7/AN7 (io), 3 AVCC (power), 4 X2 (out), 5 X1 (in), 6 VCL (power), 7 ~{RES} (in), 8 TEST (in), 9 VSS (power), 10 OSC2 (out), 11 OSC1 (in), 12 VCC (power), 13 ~{NMI} (in), 14 P87 (io), 15 P86 (io), 16 P85 (io), 17 P37 (io), 18 P36 (io), 19 P35 (io), 20 P34 (io), 21 P33 (io), 22 P32 (io), 23 P31 (io), 24 P30 (io), 25 P14/~{IRQ0} (io), 26 P15/~{IRQ1}/TMIB1 (io), 27 P16/~{IRQ2} (io), 28 P17/~{IRQ3}/TRGV (io), 29 P57/SCL (io), 30 P56/SDA (io), 31 P55/~{WKP5}/~{ADTRG} (io), 32 P54/~{WKP4} (io), 33 P53/~{WKP3} (io), 34 P52/~{WKP2} (io), 35 P51/~{WKP1} (io), 36 P50/~{WKP0} (io), 37 P24 (io), 38 P23 (io), 39 P22/TXD (io), 40 P21/RXD (io), 41 P20/SCK3 (io), 42 P60/FTIOA0 (io), 43 P61/FTIOB0 (io), 44 P62/FTIOC0 (io), 45 P63/FTIOD0 (io), 46 P64/FTIOA1 (io), 47 P65/FTIOB1 (io), 48 P66/FTIOC1 (io), 49 P67/FTIOD1 (io), 50 VSS (power), 51 P80/FTCI (io), 52 P81/FTIOA (io), 53 P82/FTIOB (io), 54 P83/FTIOC (io), 55 P84/FTIOD (io), 56 P10/TMOW (io), 57 P11/PWM (io), 58 P12 (io), 59 P90/SCK3_3 (io), 60 P91/RXD_3 (io), 61 P92/TXD_3 (io), 62 P93 (io), 63 P94 (io), 64 P95 (io), 65 P96 (io), 66 P97 (io), 67 P70/SCK3_2 (io), 68 P71/RXD_2 (io), 69 P72/TXD_2 (io), 70 P74/TMRIV (io), 71 P75/TMCIV (io), 72 P76/TMOV (io), 73 P77 (io), 74 AVSS (power), 75 PB0/AN0 (io), 76 PB1/AN1 (io), 77 PB2/AN2 (io), 78 PB3/AN3 (io), 79 PB4/AN4 (io), 80 PB5/AN5 (io)

## HD64336048GXXXH
designator U?
H8 Family 32/16-bit CISC, H8/300H Tiny, 80K ROM, 3K RAM, 1 to 10MHz, 2.7 to 5.5V, 80-Pin QFP; Published: 28-Aug-2009; DatasheetVersion: Rev.3.00, Mar-2006; PackageVersion: Sep-2005; PackageReference: PRQP0080JB-A; Publisher: Altium Limited; PackageDescription: 80-Pin Plastic Quad Flat Pack, 14 x 14 x 2.7 mm Body, 0.65 mm Pitch; Code_JEITA: P-QFP80-14x14-0.65; Code_IPC: QFP65P1720X1720-80; ComponentLink1Description: Manufacturer Link; ComponentLink1URL: http://sg.renesas.com/fmwk.jsp?cnt=h8_family_landing.jsp&fp=/products/mpumcu/h8_family/; ComponentLink2Description: Datasheet; ComponentLink2URL: http://documentation.renesas.com/eng/products/mpumcu/rej09b0060_h836049.pdf; ComponentLink3Description: Packaging Specification; ComponentLink3URL: http://sg.renesas.com/media/products/common_info/package/pdf/ic/code/prqp0080jb_a.pdf
footprint PRQP0080JB-A_N (QFP, 80-Leads, Body 14x14mm, Pitch 0.65mm, IPC Medium Density)
footprint PRQP0080JB-A_L (QFP, 80-Leads, Body 14x14mm, Pitch 0.65mm, IPC High Density)
footprint PRQP0080JB-A_M (QFP, 80-Leads, Body 14x14mm, Pitch 0.65mm, IPC Low Density)
pins: 1 PB6/AN6 (io), 2 PB7/AN7 (io), 3 AVCC (power), 4 X2 (out), 5 X1 (in), 6 VCL (power), 7 ~{RES} (in), 8 TEST (in), 9 VSS (power), 10 OSC2 (out), 11 OSC1 (in), 12 VCC (power), 13 ~{NMI} (in), 14 P87 (io), 15 P86 (io), 16 P85 (io), 17 P37 (io), 18 P36 (io), 19 P35 (io), 20 P34 (io), 21 P33 (io), 22 P32 (io), 23 P31 (io), 24 P30 (io), 25 P14/~{IRQ0} (io), 26 P15/~{IRQ1}/TMIB1 (io), 27 P16/~{IRQ2} (io), 28 P17/~{IRQ3}/TRGV (io), 29 P57/SCL (io), 30 P56/SDA (io), 31 P55/~{WKP5}/~{ADTRG} (io), 32 P54/~{WKP4} (io), 33 P53/~{WKP3} (io), 34 P52/~{WKP2} (io), 35 P51/~{WKP1} (io), 36 P50/~{WKP0} (io), 37 P24 (io), 38 P23 (io), 39 P22/TXD (io), 40 P21/RXD (io), 41 P20/SCK3 (io), 42 P60/FTIOA0 (io), 43 P61/FTIOB0 (io), 44 P62/FTIOC0 (io), 45 P63/FTIOD0 (io), 46 P64/FTIOA1 (io), 47 P65/FTIOB1 (io), 48 P66/FTIOC1 (io), 49 P67/FTIOD1 (io), 50 VSS (power), 51 P80/FTCI (io), 52 P81/FTIOA (io), 53 P82/FTIOB (io), 54 P83/FTIOC (io), 55 P84/FTIOD (io), 56 P10/TMOW (io), 57 P11/PWM (io), 58 P12 (io), 59 P90/SCK3_3 (io), 60 P91/RXD_3 (io), 61 P92/TXD_3 (io), 62 P93 (io), 63 P94 (io), 64 P95 (io), 65 P96 (io), 66 P97 (io), 67 P70/SCK3_2 (io), 68 P71/RXD_2 (io), 69 P72/TXD_2 (io), 70 P74/TMRIV (io), 71 P75/TMCIV (io), 72 P76/TMOV (io), 73 P77 (io), 74 AVSS (power), 75 PB0/AN0 (io), 76 PB1/AN1 (io), 77 PB2/AN2 (io), 78 PB3/AN3 (io), 79 PB4/AN4 (io), 80 PB5/AN5 (io)

## HD64336048XXXH
designator U?
H8 Family 32/16-bit CISC, H8/300H Tiny, 80K ROM, 3K RAM, 1 to 10MHz, 2.7 to 5.5V, 80-Pin QFP; Published: 28-Aug-2009; DatasheetVersion: Rev.3.00, Mar-2006; PackageVersion: Sep-2005; PackageReference: PRQP0080JB-A; Publisher: Altium Limited; PackageDescription: 80-Pin Plastic Quad Flat Pack, 14 x 14 x 2.7 mm Body, 0.65 mm Pitch; Code_JEITA: P-QFP80-14x14-0.65; Code_IPC: QFP65P1720X1720-80; ComponentLink1Description: Manufacturer Link; ComponentLink1URL: http://sg.renesas.com/fmwk.jsp?cnt=h8_family_landing.jsp&fp=/products/mpumcu/h8_family/; ComponentLink2Description: Datasheet; ComponentLink2URL: http://documentation.renesas.com/eng/products/mpumcu/rej09b0060_h836049.pdf; ComponentLink3Description: Packaging Specification; ComponentLink3URL: http://sg.renesas.com/media/products/common_info/package/pdf/ic/code/prqp0080jb_a.pdf
footprint PRQP0080JB-A_N (QFP, 80-Leads, Body 14x14mm, Pitch 0.65mm, IPC Medium Density)
footprint PRQP0080JB-A_L (QFP, 80-Leads, Body 14x14mm, Pitch 0.65mm, IPC High Density)
footprint PRQP0080JB-A_M (QFP, 80-Leads, Body 14x14mm, Pitch 0.65mm, IPC Low Density)
pins: 1 PB6/AN6 (io), 2 PB7/AN7 (io), 3 AVCC (power), 4 X2 (out), 5 X1 (in), 6 VCL (power), 7 ~{RES} (in), 8 TEST (in), 9 VSS (power), 10 OSC2 (out), 11 OSC1 (in), 12 VCC (power), 13 ~{NMI} (in), 14 P87 (io), 15 P86 (io), 16 P85 (io), 17 P37 (io), 18 P36 (io), 19 P35 (io), 20 P34 (io), 21 P33 (io), 22 P32 (io), 23 P31 (io), 24 P30 (io), 25 P14/~{IRQ0} (io), 26 P15/~{IRQ1}/TMIB1 (io), 27 P16/~{IRQ2} (io), 28 P17/~{IRQ3}/TRGV (io), 29 P57/SCL (io), 30 P56/SDA (io), 31 P55/~{WKP5}/~{ADTRG} (io), 32 P54/~{WKP4} (io), 33 P53/~{WKP3} (io), 34 P52/~{WKP2} (io), 35 P51/~{WKP1} (io), 36 P50/~{WKP0} (io), 37 P24 (io), 38 P23 (io), 39 P22/TXD (io), 40 P21/RXD (io), 41 P20/SCK3 (io), 42 P60/FTIOA0 (io), 43 P61/FTIOB0 (io), 44 P62/FTIOC0 (io), 45 P63/FTIOD0 (io), 46 P64/FTIOA1 (io), 47 P65/FTIOB1 (io), 48 P66/FTIOC1 (io), 49 P67/FTIOD1 (io), 50 VSS (power), 51 P80/FTCI (io), 52 P81/FTIOA (io), 53 P82/FTIOB (io), 54 P83/FTIOC (io), 55 P84/FTIOD (io), 56 P10/TMOW (io), 57 P11/PWM (io), 58 P12 (io), 59 P90/SCK3_3 (io), 60 P91/RXD_3 (io), 61 P92/TXD_3 (io), 62 P93 (io), 63 P94 (io), 64 P95 (io), 65 P96 (io), 66 P97 (io), 67 P70/SCK3_2 (io), 68 P71/RXD_2 (io), 69 P72/TXD_2 (io), 70 P74/TMRIV (io), 71 P75/TMCIV (io), 72 P76/TMOV (io), 73 P77 (io), 74 AVSS (power), 75 PB0/AN0 (io), 76 PB1/AN1 (io), 77 PB2/AN2 (io), 78 PB3/AN3 (io), 79 PB4/AN4 (io), 80 PB5/AN5 (io)

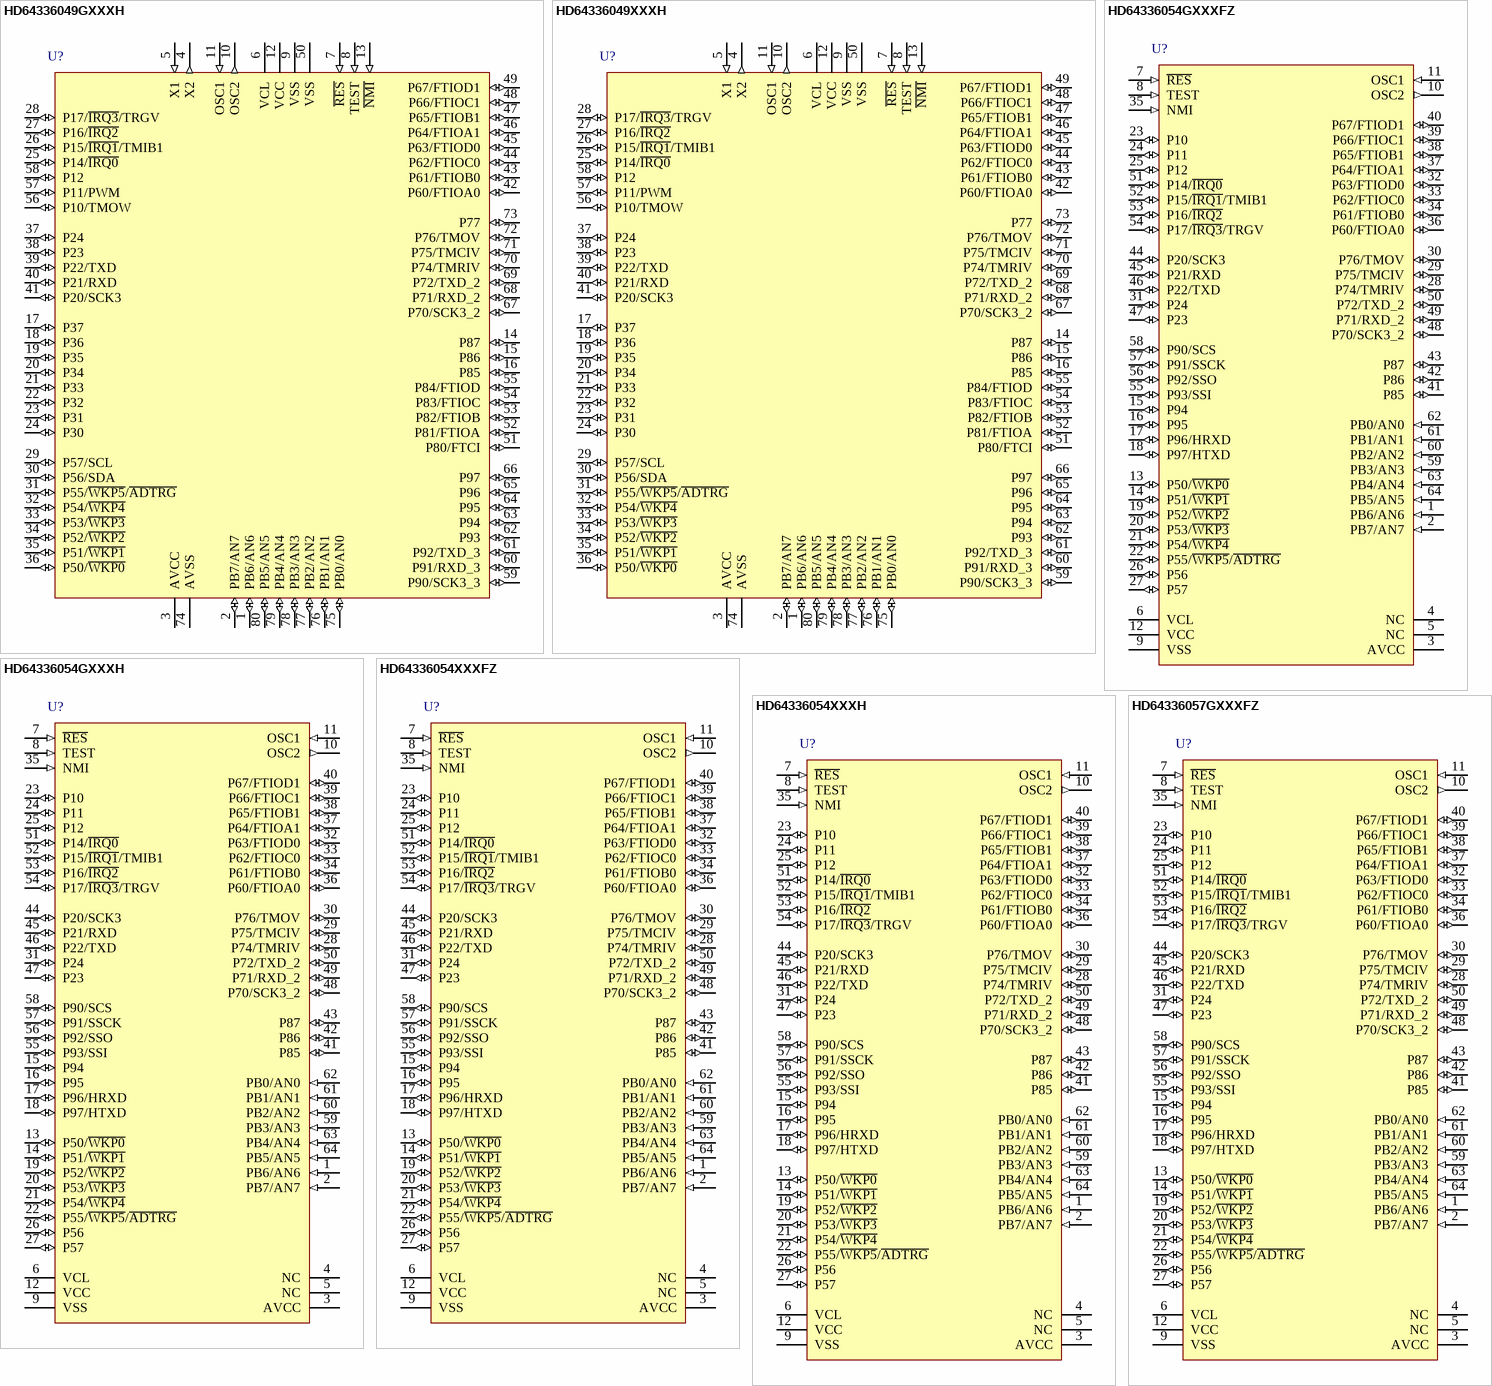
[diagram p72: symbols HD64336049GXXXH to HD64336057GXXXFZ]

## HD64336049GXXXH
designator U?
H8 Family 32/16-bit CISC, H8/300H Tiny, 96K ROM, 3K RAM, 1 to 10MHz, 2.7 to 5.5V, 80-Pin QFP; Published: 28-Aug-2009; DatasheetVersion: Rev.3.00, Mar-2006; PackageVersion: Sep-2005; PackageReference: PRQP0080JB-A; Publisher: Altium Limited; PackageDescription: 80-Pin Plastic Quad Flat Pack, 14 x 14 x 2.7 mm Body, 0.65 mm Pitch; Code_JEITA: P-QFP80-14x14-0.65; Code_IPC: QFP65P1720X1720-80; ComponentLink1Description: Manufacturer Link; ComponentLink1URL: http://sg.renesas.com/fmwk.jsp?cnt=h8_family_landing.jsp&fp=/products/mpumcu/h8_family/; ComponentLink2Description: Datasheet; ComponentLink2URL: http://documentation.renesas.com/eng/products/mpumcu/rej09b0060_h836049.pdf; ComponentLink3Description: Packaging Specification; ComponentLink3URL: http://sg.renesas.com/media/products/common_info/package/pdf/ic/code/prqp0080jb_a.pdf
footprint PRQP0080JB-A_N (QFP, 80-Leads, Body 14x14mm, Pitch 0.65mm, IPC Medium Density)
footprint PRQP0080JB-A_L (QFP, 80-Leads, Body 14x14mm, Pitch 0.65mm, IPC High Density)
footprint PRQP0080JB-A_M (QFP, 80-Leads, Body 14x14mm, Pitch 0.65mm, IPC Low Density)
pins: 1 PB6/AN6 (io), 2 PB7/AN7 (io), 3 AVCC (power), 4 X2 (out), 5 X1 (in), 6 VCL (power), 7 ~{RES} (in), 8 TEST (in), 9 VSS (power), 10 OSC2 (out), 11 OSC1 (in), 12 VCC (power), 13 ~{NMI} (in), 14 P87 (io), 15 P86 (io), 16 P85 (io), 17 P37 (io), 18 P36 (io), 19 P35 (io), 20 P34 (io), 21 P33 (io), 22 P32 (io), 23 P31 (io), 24 P30 (io), 25 P14/~{IRQ0} (io), 26 P15/~{IRQ1}/TMIB1 (io), 27 P16/~{IRQ2} (io), 28 P17/~{IRQ3}/TRGV (io), 29 P57/SCL (io), 30 P56/SDA (io), 31 P55/~{WKP5}/~{ADTRG} (io), 32 P54/~{WKP4} (io), 33 P53/~{WKP3} (io), 34 P52/~{WKP2} (io), 35 P51/~{WKP1} (io), 36 P50/~{WKP0} (io), 37 P24 (io), 38 P23 (io), 39 P22/TXD (io), 40 P21/RXD (io), 41 P20/SCK3 (io), 42 P60/FTIOA0 (io), 43 P61/FTIOB0 (io), 44 P62/FTIOC0 (io), 45 P63/FTIOD0 (io), 46 P64/FTIOA1 (io), 47 P65/FTIOB1 (io), 48 P66/FTIOC1 (io), 49 P67/FTIOD1 (io), 50 VSS (power), 51 P80/FTCI (io), 52 P81/FTIOA (io), 53 P82/FTIOB (io), 54 P83/FTIOC (io), 55 P84/FTIOD (io), 56 P10/TMOW (io), 57 P11/PWM (io), 58 P12 (io), 59 P90/SCK3_3 (io), 60 P91/RXD_3 (io), 61 P92/TXD_3 (io), 62 P93 (io), 63 P94 (io), 64 P95 (io), 65 P96 (io), 66 P97 (io), 67 P70/SCK3_2 (io), 68 P71/RXD_2 (io), 69 P72/TXD_2 (io), 70 P74/TMRIV (io), 71 P75/TMCIV (io), 72 P76/TMOV (io), 73 P77 (io), 74 AVSS (power), 75 PB0/AN0 (io), 76 PB1/AN1 (io), 77 PB2/AN2 (io), 78 PB3/AN3 (io), 79 PB4/AN4 (io), 80 PB5/AN5 (io)

## HD64336049XXXH
designator U?
H8 Family 32/16-bit CISC, H8/300H Tiny, 96K ROM, 3K RAM, 1 to 10MHz, 2.7 to 5.5V, 80-Pin QFP; Published: 28-Aug-2009; DatasheetVersion: Rev.3.00, Mar-2006; PackageVersion: Sep-2005; PackageReference: PRQP0080JB-A; Publisher: Altium Limited; PackageDescription: 80-Pin Plastic Quad Flat Pack, 14 x 14 x 2.7 mm Body, 0.65 mm Pitch; Code_JEITA: P-QFP80-14x14-0.65; Code_IPC: QFP65P1720X1720-80; ComponentLink1Description: Manufacturer Link; ComponentLink1URL: http://sg.renesas.com/fmwk.jsp?cnt=h8_family_landing.jsp&fp=/products/mpumcu/h8_family/; ComponentLink2Description: Datasheet; ComponentLink2URL: http://documentation.renesas.com/eng/products/mpumcu/rej09b0060_h836049.pdf; ComponentLink3Description: Packaging Specification; ComponentLink3URL: http://sg.renesas.com/media/products/common_info/package/pdf/ic/code/prqp0080jb_a.pdf
footprint PRQP0080JB-A_N (QFP, 80-Leads, Body 14x14mm, Pitch 0.65mm, IPC Medium Density)
footprint PRQP0080JB-A_L (QFP, 80-Leads, Body 14x14mm, Pitch 0.65mm, IPC High Density)
footprint PRQP0080JB-A_M (QFP, 80-Leads, Body 14x14mm, Pitch 0.65mm, IPC Low Density)
pins: 1 PB6/AN6 (io), 2 PB7/AN7 (io), 3 AVCC (power), 4 X2 (out), 5 X1 (in), 6 VCL (power), 7 ~{RES} (in), 8 TEST (in), 9 VSS (power), 10 OSC2 (out), 11 OSC1 (in), 12 VCC (power), 13 ~{NMI} (in), 14 P87 (io), 15 P86 (io), 16 P85 (io), 17 P37 (io), 18 P36 (io), 19 P35 (io), 20 P34 (io), 21 P33 (io), 22 P32 (io), 23 P31 (io), 24 P30 (io), 25 P14/~{IRQ0} (io), 26 P15/~{IRQ1}/TMIB1 (io), 27 P16/~{IRQ2} (io), 28 P17/~{IRQ3}/TRGV (io), 29 P57/SCL (io), 30 P56/SDA (io), 31 P55/~{WKP5}/~{ADTRG} (io), 32 P54/~{WKP4} (io), 33 P53/~{WKP3} (io), 34 P52/~{WKP2} (io), 35 P51/~{WKP1} (io), 36 P50/~{WKP0} (io), 37 P24 (io), 38 P23 (io), 39 P22/TXD (io), 40 P21/RXD (io), 41 P20/SCK3 (io), 42 P60/FTIOA0 (io), 43 P61/FTIOB0 (io), 44 P62/FTIOC0 (io), 45 P63/FTIOD0 (io), 46 P64/FTIOA1 (io), 47 P65/FTIOB1 (io), 48 P66/FTIOC1 (io), 49 P67/FTIOD1 (io), 50 VSS (power), 51 P80/FTCI (io), 52 P81/FTIOA (io), 53 P82/FTIOB (io), 54 P83/FTIOC (io), 55 P84/FTIOD (io), 56 P10/TMOW (io), 57 P11/PWM (io), 58 P12 (io), 59 P90/SCK3_3 (io), 60 P91/RXD_3 (io), 61 P92/TXD_3 (io), 62 P93 (io), 63 P94 (io), 64 P95 (io), 65 P96 (io), 66 P97 (io), 67 P70/SCK3_2 (io), 68 P71/RXD_2 (io), 69 P72/TXD_2 (io), 70 P74/TMRIV (io), 71 P75/TMCIV (io), 72 P76/TMOV (io), 73 P77 (io), 74 AVSS (power), 75 PB0/AN0 (io), 76 PB1/AN1 (io), 77 PB2/AN2 (io), 78 PB3/AN3 (io), 79 PB4/AN4 (io), 80 PB5/AN5 (io)

## HD64336054GXXXFZ
designator U?
H8 Family 32/16-bit CISC, H8/300H Tiny, 32K ROM, 2K RAM, 1 to 10MHz, 2.7 to 5.5V, 64-Pin QFP; Published: 28-Aug-2009; DatasheetVersion: Rev.4.00, Mar-2006; PackageVersion: Sep-2005; PackageReference: PLQP0064KB-A; Publisher: Altium Limited; PackageDescription: 64-Pin Plastic Low Profile QFP, 10 x 10 x 1.4 mm Body, 0.5 mm Pitch; Code_JEITA: P-LQFP64-10x10-0.50; Code_IPC: SQFP50P1200X1200-64; ComponentLink1Description: Manufacturer Link; ComponentLink1URL: http://sg.renesas.com/fmwk.jsp?cnt=h8_family_landing.jsp&fp=/products/mpumcu/h8_family/; ComponentLink2Description: Datasheet; ComponentLink2URL: http://documentation.renesas.com/eng/products/mpumcu/rej09b0026_h836057.pdf; ComponentLink3Description: Packaging Specification; ComponentLink3URL: http://sg.renesas.com/media/products/common_info/package/pdf/ic/code/plqp0064kb_a.pdf
footprint PLQP0064KB-A_N (Shrink QFP, 64-Leads, Body 10x10mm, Pitch 0.5mm, IPC Medium Density)
footprint PLQP0064KB-A_L (Shrink QFP, 64-Leads, Body 10x10mm, Pitch 0.5mm, IPC High Density)
footprint PLQP0064KB-A_M (Shrink QFP, 64-Leads, Body 10x10mm, Pitch 0.5mm, IPC Low Density)
pins: 1 PB6/AN6 (in), 2 PB7/AN7 (in), 3 AVCC (power), 4 NC, 5 NC, 6 VCL (power), 7 ~{RES} (in), 8 TEST (in), 9 VSS (power), 10 OSC2 (out), 11 OSC1 (in), 12 VCC (power), 13 P50/~{WKP0} (io), 14 P51/~{WKP1} (io), 15 P94 (io), 16 P95 (io), 17 P96/HRXD (io), 18 P97/HTXD (io), 19 P52/~{WKP2} (io), 20 P53/~{WKP3} (io), 21 P54/~{WKP4} (io), 22 P55/~{WKP5}/~{ADTRG} (io), 23 P10 (io), 24 P11 (io), 25 P12 (io), 26 P56 (io), 27 P57 (io), 28 P74/TMRIV (io), 29 P75/TMCIV (io), 30 P76/TMOV (io), 31 P24 (io), 32 P63/FTIOD0 (io), 33 P62/FTIOC0 (io), 34 P61/FTIOB0 (io), 35 NMI (in), 36 P60/FTIOA0 (io), 37 P64/FTIOA1 (io), 38 P65/FTIOB1 (io), 39 P66/FTIOC1 (io), 40 P67/FTIOD1 (io), 41 P85 (io), 42 P86 (io), 43 P87 (io), 44 P20/SCK3 (io), 45 P21/RXD (io), 46 P22/TXD (io), 47 P23 (io), 48 P70/SCK3_2 (io), 49 P71/RXD_2 (io), 50 P72/TXD_2 (io), 51 P14/~{IRQ0} (io), 52 P15/~{IRQ1}/TMIB1 (io), 53 P16/~{IRQ2} (io), 54 P17/~{IRQ3}/TRGV (io), 55 P93/SSI (io), 56 P92/SSO (io), 57 P91/SSCK (io), 58 P90/SCS (io), 59 PB3/AN3 (in), 60 PB2/AN2 (in), 61 PB1/AN1 (in), 62 PB0/AN0 (in), 63 PB4/AN4 (in), 64 PB5/AN5 (in)